# Altium schematic symbol library GN-1866-A-V2 -BOM_Library.SchLib: 79 symbols
Pins are listed as number, name and electrical type; pins without a type are passive.

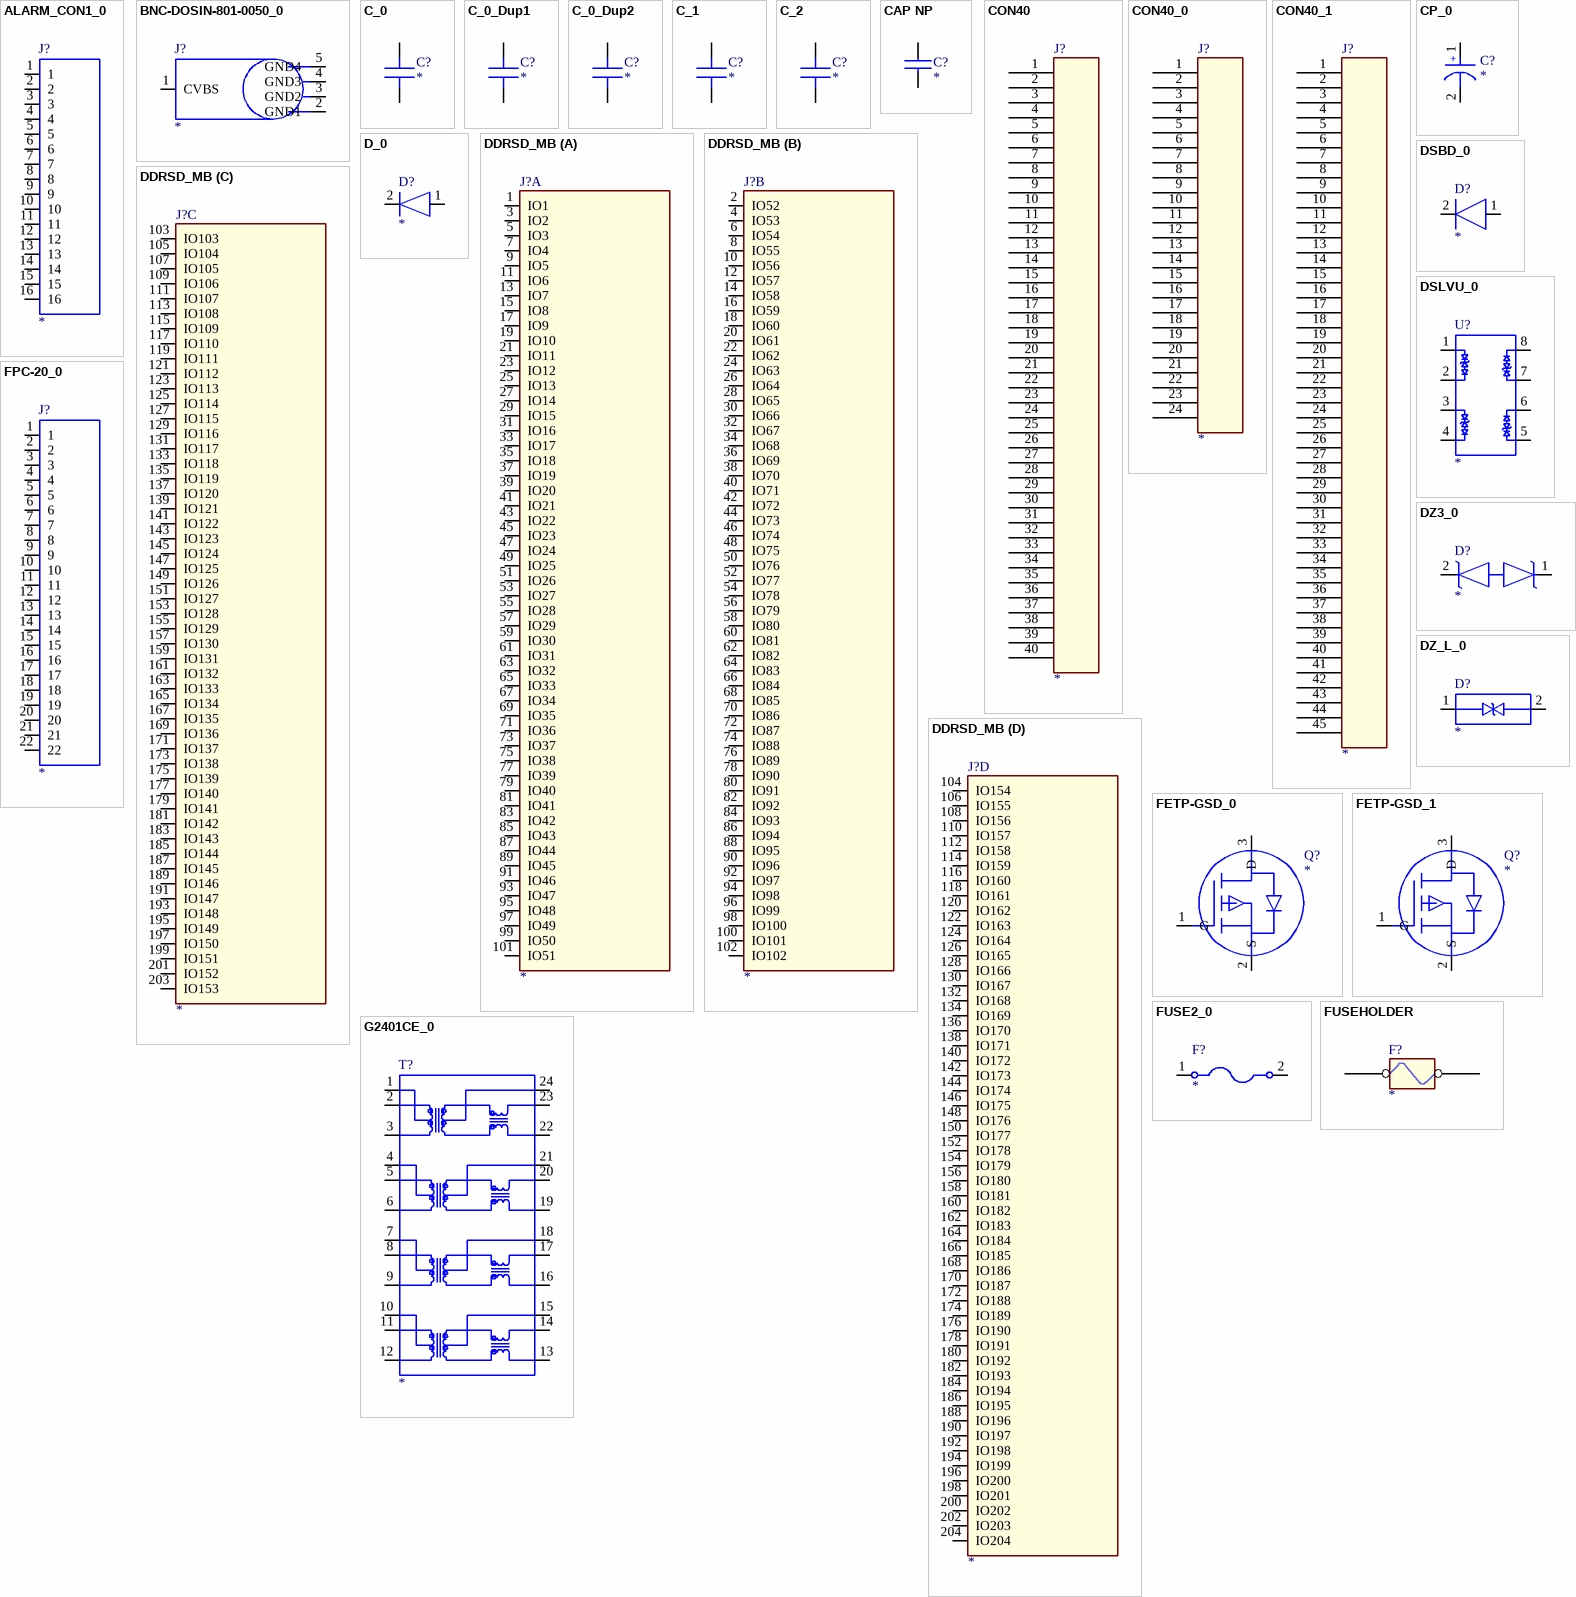
[diagram p0: symbols ALARM_CON1_0 to G2401CE_0]

## ALARM_CON1_0
designator J?
PARTS: 1; PKG_TYPE: HD16-2_54MM-S; DEVICE: CON; LEVEL: STD; OriginalSymbolOrigin: (20,180)
pins: 1, 2, 3, 4, 5, 6, 7, 8, 9, 10, 11, 12, 13, 14, 15, 16

## BNC-DOSIN-801-0050_0
designator J?
PARTS: 1; DEVICE: BNC-DOSIN-801-0050; LEVEL: STD; OriginalSymbolOrigin: (20,60)
pins: 1 CVBS, 2 GND1, 3 GND2, 4 GND3, 5 GND4

## C_0
designator C?
PARTS: 1; PINSWAP: (A,B); LEVEL: STD; PKG_TYPE: CAP2-100-250; DEVICE: CP; OriginalSymbolOrigin: (0,30)
pins: 1 A, 2 B

## C_0_Dup1
designator C?
PARTS: 1; OriginalSymbolOrigin: (0,30); DEVICE: CP; PKG_TYPE: CAP2-100-250; LEVEL: STD; PINSWAP: (A,B)
pins: 1 A, 2 B

## C_0_Dup2
designator C?
PARTS: 1; OriginalSymbolOrigin: (0,30); DEVICE: CP; PKG_TYPE: CAP2-100-250; LEVEL: STD; PINSWAP: (A,B)
pins: 1 A, 2 B

## C_1
designator C?
PARTS: 1; OriginalSymbolOrigin: (0,30); DEVICE: CP; PKG_TYPE: CAP2-100-250; LEVEL: STD; PINSWAP: (A,B)
pins: 1 A, 2 B

## C_2
designator C?
PARTS: 1; PINSWAP: (A,B); LEVEL: STD; PKG_TYPE: CAP2-100-250; DEVICE: CP; OriginalSymbolOrigin: (0,30)
pins: 1 A, 2 B

## CAP NP
designator C?
pins: 1, 2

## CON40
designator J?
pins: 1, 2, 3, 4, 5, 6, 7, 8, 9, 10, 11, 12, 13, 14, 15, 16, 17, 18, 19, 20, 21, 22, 23, 24, 25, 26, 27, 28, 29, 30, 31, 32, 33, 34, 35, 36, 37, 38, 39, 40

## CON40_0
designator J?
pins: 1, 2, 3, 4, 5, 6, 7, 8, 9, 10, 11, 12, 13, 14, 15, 16, 17, 18, 19, 20, 21, 22, 23, 24

## CON40_1
designator J?
pins: 1, 2, 3, 4, 5, 6, 7, 8, 9, 10, 11, 12, 13, 14, 15, 16, 17, 18, 19, 20, 21, 22, 23, 24, 25, 26, 27, 28, 29, 30, 31, 32, 33, 34, 35, 36, 37, 38, 39, 40, 41, 42, 43, 44, 45

## CP_0
designator C?
PARTS: 1; OriginalSymbolOrigin: (0,30); DEVICE: CP; PKG_TYPE: CAP2-100-250; LEVEL: STD
pins: 1, 2
text: +

## D_0
designator D?
PARTS: 1; DEVICE: D; LEVEL: STD; PKG_TYPE: 2; OriginalSymbolOrigin: (30,20)
pins: 1 A, 2 B

## DDRSD_MB
designator J?
SPLIT_INST: TRUE; SWAP_INFO: (S1+S2+S3+S4)
part A pins: 1 IO1, 3 IO2, 5 IO3, 7 IO4, 9 IO5, 11 IO6, 13 IO7, 15 IO8, 17 IO9, 19 IO10, 21 IO11, 23 IO12, 25 IO13, 27 IO14, 29 IO15, 31 IO16, 33 IO17, 35 IO18, 37 IO19, 39 IO20, 41 IO21, 43 IO22, 45 IO23, 47 IO24, 49 IO25, 51 IO26, 53 IO27, 55 IO28, 57 IO29, 59 IO30, 61 IO31, 63 IO32, 65 IO33, 67 IO34, 69 IO35, 71 IO36, 73 IO37, 75 IO38, 77 IO39, 79 IO40, 81 IO41, 83 IO42, 85 IO43, 87 IO44, 89 IO45, 91 IO46, 93 IO47, 95 IO48, 97 IO49, 99 IO50, 101 IO51
part B pins: 2 IO52, 4 IO53, 6 IO54, 8 IO55, 10 IO56, 12 IO57, 14 IO58, 16 IO59, 18 IO60, 20 IO61, 22 IO62, 24 IO63, 26 IO64, 28 IO65, 30 IO66, 32 IO67, 34 IO68, 36 IO69, 38 IO70, 40 IO71, 42 IO72, 44 IO73, 46 IO74, 48 IO75, 50 IO76, 52 IO77, 54 IO78, 56 IO79, 58 IO80, 60 IO81, 62 IO82, 64 IO83, 66 IO84, 68 IO85, 70 IO86, 72 IO87, 74 IO88, 76 IO89, 78 IO90, 80 IO91, 82 IO92, 84 IO93, 86 IO94, 88 IO95, 90 IO96, 92 IO97, 94 IO98, 96 IO99, 98 IO100, 100 IO101, 102 IO102
part C pins: 103 IO103, 105 IO104, 107 IO105, 109 IO106, 111 IO107, 113 IO108, 115 IO109, 117 IO110, 119 IO111, 121 IO112, 123 IO113, 125 IO114, 127 IO115, 129 IO116, 131 IO117, 133 IO118, 135 IO119, 137 IO120, 139 IO121, 141 IO122, 143 IO123, 145 IO124, 147 IO125, 149 IO126, 151 IO127, 153 IO128, 155 IO129, 157 IO130, 159 IO131, 161 IO132, 163 IO133, 165 IO134, 167 IO135, 169 IO136, 171 IO137, 173 IO138, 175 IO139, 177 IO140, 179 IO141, 181 IO142, 183 IO143, 185 IO144, 187 IO145, 189 IO146, 191 IO147, 193 IO148, 195 IO149, 197 IO150, 199 IO151, 201 IO152, 203 IO153
part D pins: 104 IO154, 106 IO155, 108 IO156, 110 IO157, 112 IO158, 114 IO159, 116 IO160, 118 IO161, 120 IO162, 122 IO163, 124 IO164, 126 IO165, 128 IO166, 130 IO167, 132 IO168, 134 IO169, 136 IO170, 138 IO171, 140 IO172, 142 IO173, 144 IO174, 146 IO175, 148 IO176, 150 IO177, 152 IO178, 154 IO179, 156 IO180, 158 IO181, 160 IO182, 162 IO183, 164 IO184, 166 IO185, 168 IO186, 170 IO187, 172 IO188, 174 IO189, 176 IO190, 178 IO191, 180 IO192, 182 IO193, 184 IO194, 186 IO195, 188 IO196, 190 IO197, 192 IO198, 194 IO199, 196 IO200, 198 IO201, 200 IO202, 202 IO203, 204 IO204

## DSBD_0
designator D?
PARTS: 1; DEVICE: DIODE1; LEVEL: STD; PKG_TYPE: DIODE2-600-60; CODE: 15010002; OriginalSymbolOrigin: (20,20)
pins: 1 A, 2 B

## DSLVU_0
designator U?
PARTS: 1; DEVICE: SLVU28_4; LEVEL: STD; PKG_TYPE: SOP8-50-150; CODE: 15040165; OriginalSymbolOrigin: (20,90)
pins: 1 P1, 2 P2, 3 P3, 4 P4, 5 P5, 6 P6, 7 P7, 8 P8

## DZ3_0
designator D?
PARTS: 1; DEVICE: 1N5231BRL; LEVEL: STD; PKG_TYPE: DO-214AA-DI; CODE: 15040194; OriginalSymbolOrigin: (20,20)
pins: 1 A, 2 B

## DZ_L_0
designator D?
PARTS: 1; DEVICE: AKSMT15-076C; LEVEL: STD; OriginalSymbolOrigin: (20,30)
pins: 1, 2

## FETP-GSD_0
designator Q?
PARTS: 1; DEVICE: REF; PKG_TYPE: SOT23; LEVEL: STD; OriginalSymbolOrigin: (10,80)
pins: 1 G, 2 S, 3 D

## FETP-GSD_1
designator Q?
PARTS: 1; DEVICE: REF; PKG_TYPE: SOT23; LEVEL: STD; OriginalSymbolOrigin: (10,80)
pins: 1 G, 2 S, 3 D

## FPC-20_0
designator J?
PARTS: 1; DEVICE: FPC-20; LEVEL: STD; OriginalSymbolOrigin: (20,240)
pins: 1, 2, 3, 4, 5, 6, 7, 8, 9, 10, 11, 12, 13, 14, 15, 16, 17, 18, 19, 20, 21, 22

## FUSE2_0
designator F?
PARTS: 1; OriginalSymbolOrigin: (20,20); LEVEL: STD; DEVICE: FUSE; CODE: ?; PKG_TYPE: ?
pins: 1 P1, 2 P2

## FUSEHOLDER
designator F?
pins: 1, 2

## G2401CE_0
designator T?
FORWARD_PCB: 1; DEVICE: G2401CE; LEVEL: STD; OriginalSymbolOrigin: (20,210); PARTS: 1
pins: 1 P1, 2 P2, 3 P3, 4 P4, 5 P5, 6 P6, 7 P7, 8 P8, 9 P9, 10 P10, 11 P11, 12 P12, 13 P13, 14 P14, 15 P15, 16 P16, 17 P17, 18 P18, 19 P19, 20 P20, 21 P21, 22 P22, 23 P23, 24 P24

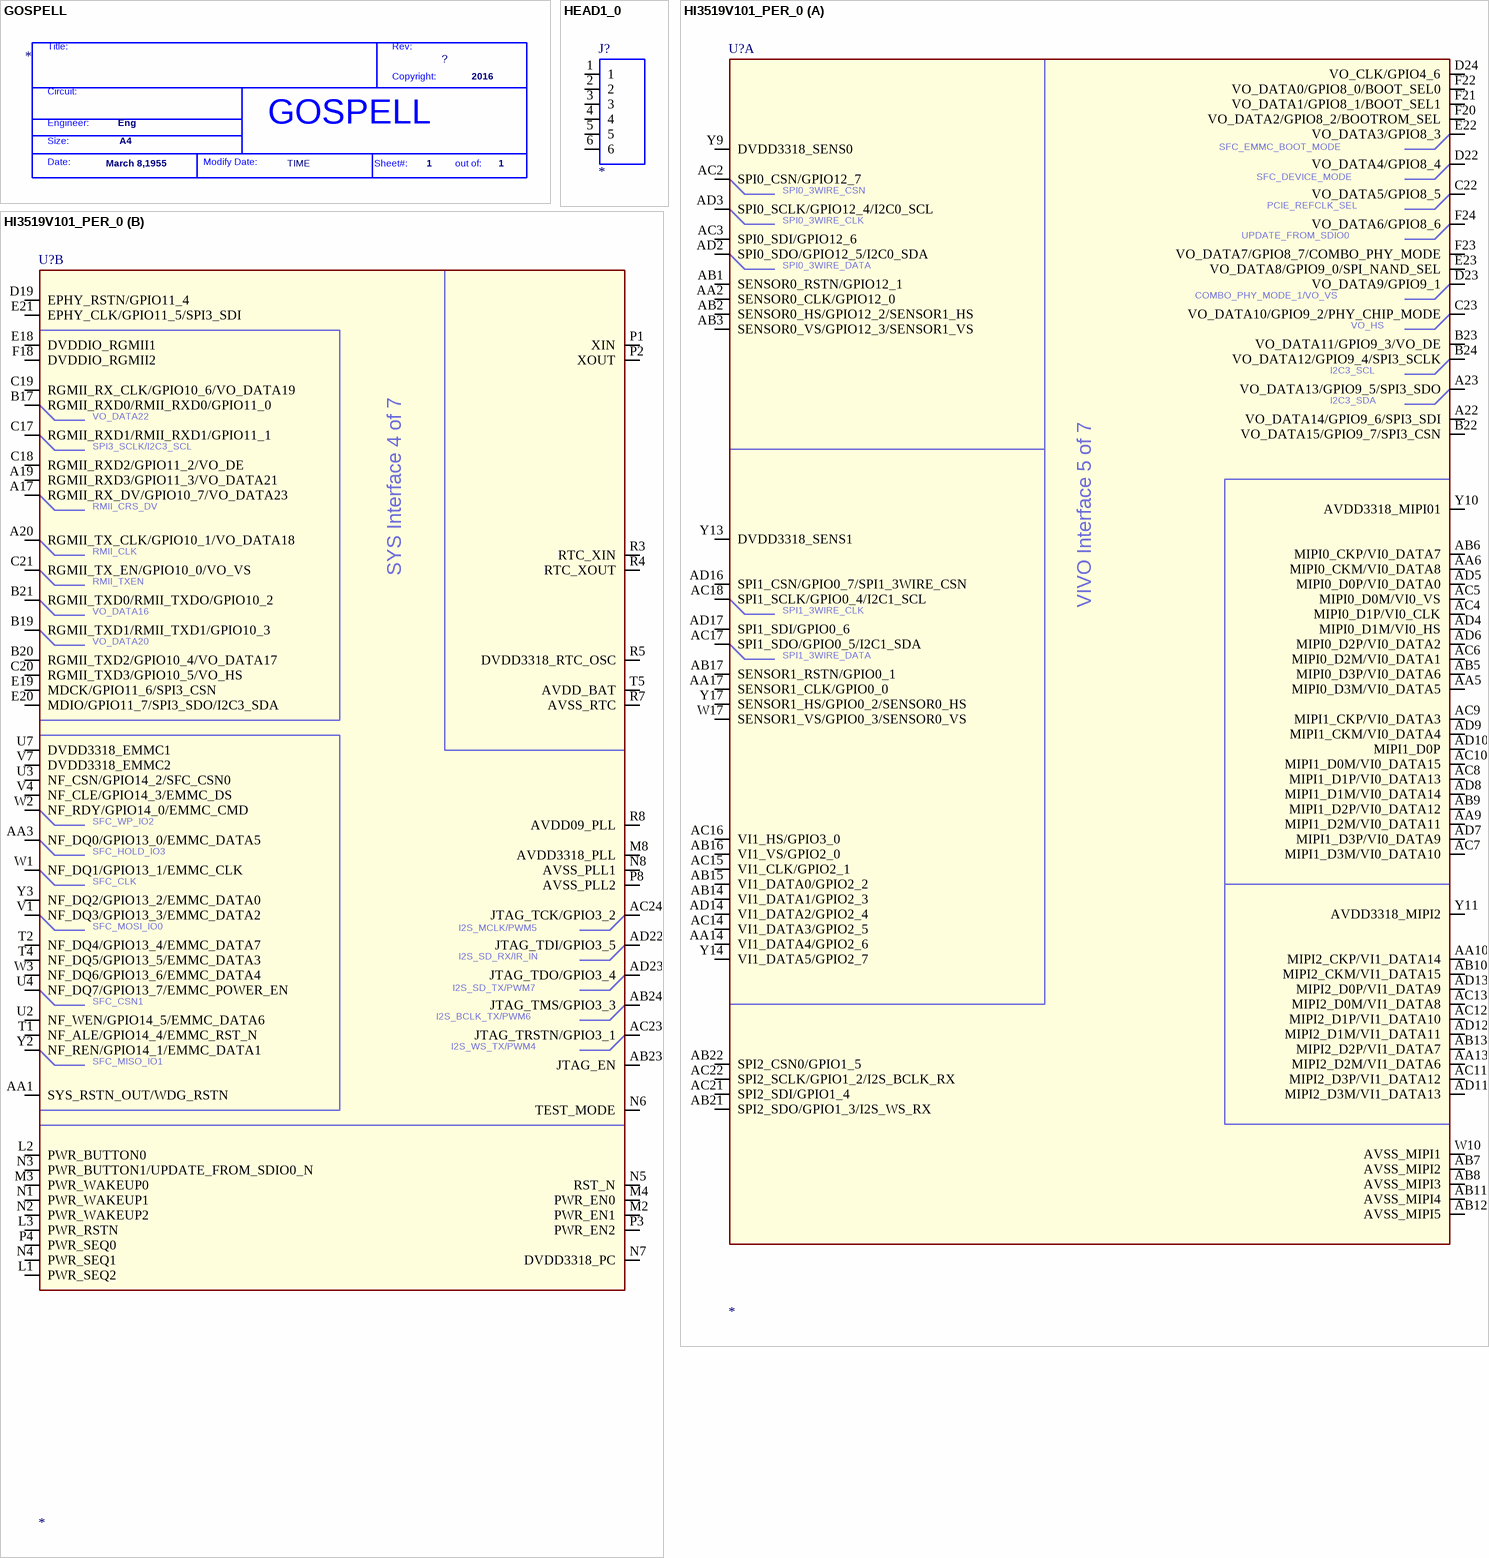
[diagram p1: symbols GOSPELL to HI3519V101_PER_0]

## GOSPELL
designator *  Page Modify Date: TIME  Engineer: Eng  Copyright: 2016  Page Size: A4  Page Create Date: March 8,1955  Page Number: 1  (graphical)
RevCode: ?; Page Count: 1
text: Title:; Rev:; Copyright:; Circuit:; Engineer:; Size:; Date:; Modify Date:; Sheet#:; out of:

## HEAD1_0
designator J?
PARTS: 1; LEVEL: STD; DEVICE: HEAD1_6; OriginalSymbolOrigin: (20,70)
pins: 1, 2, 3, 4, 5, 6

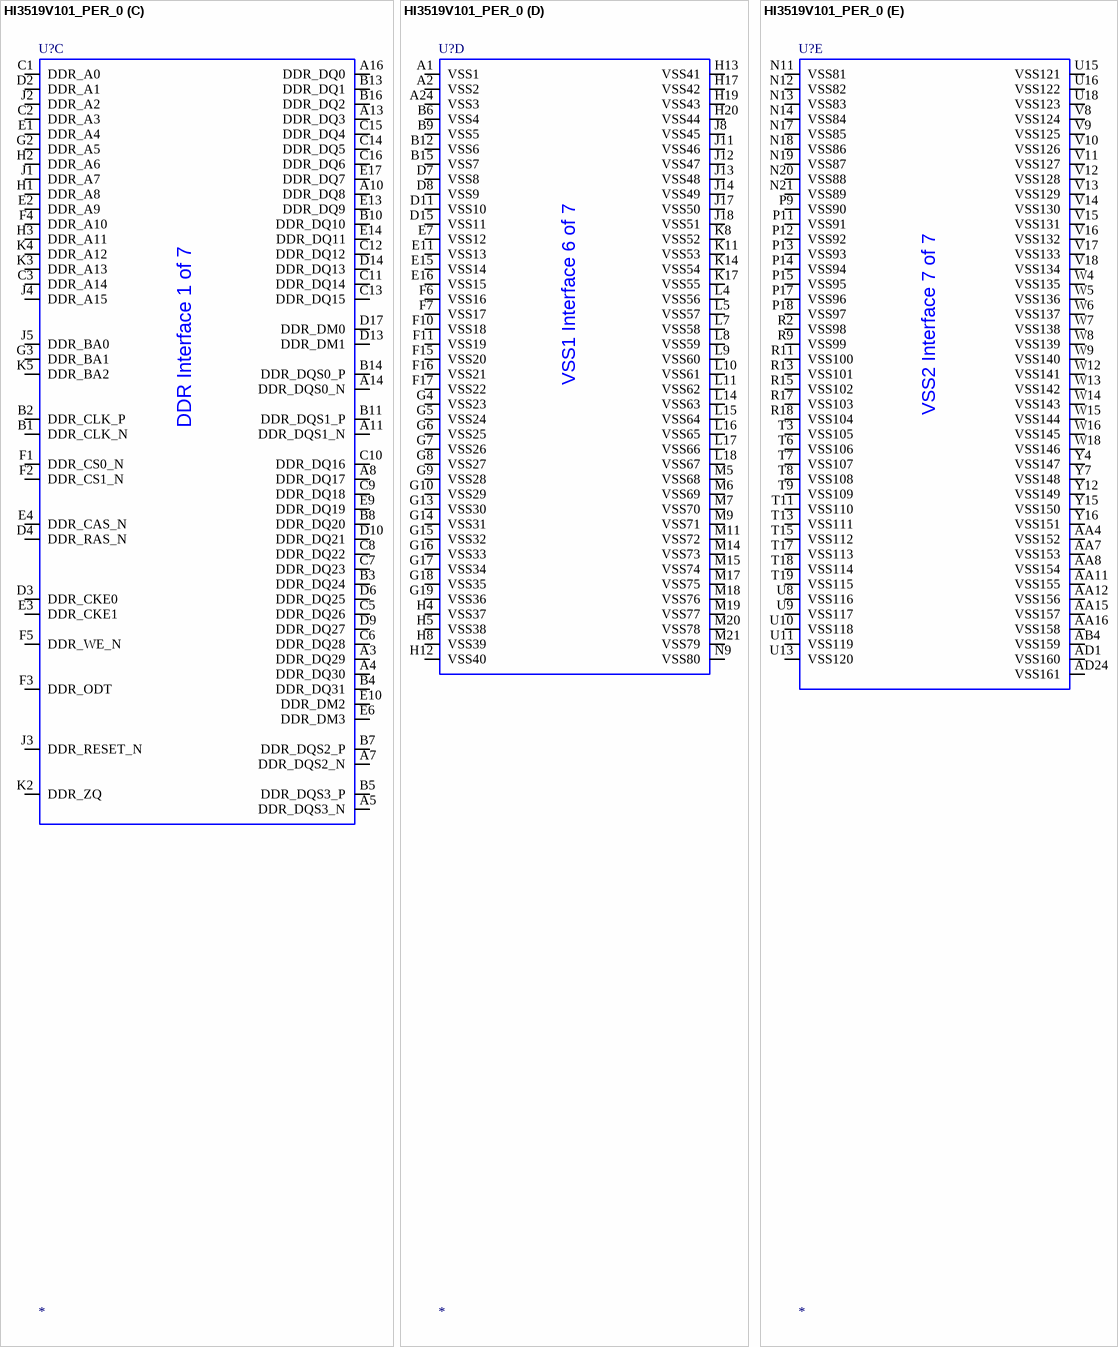
[diagram p2: symbol HI3519V101_PER_0]

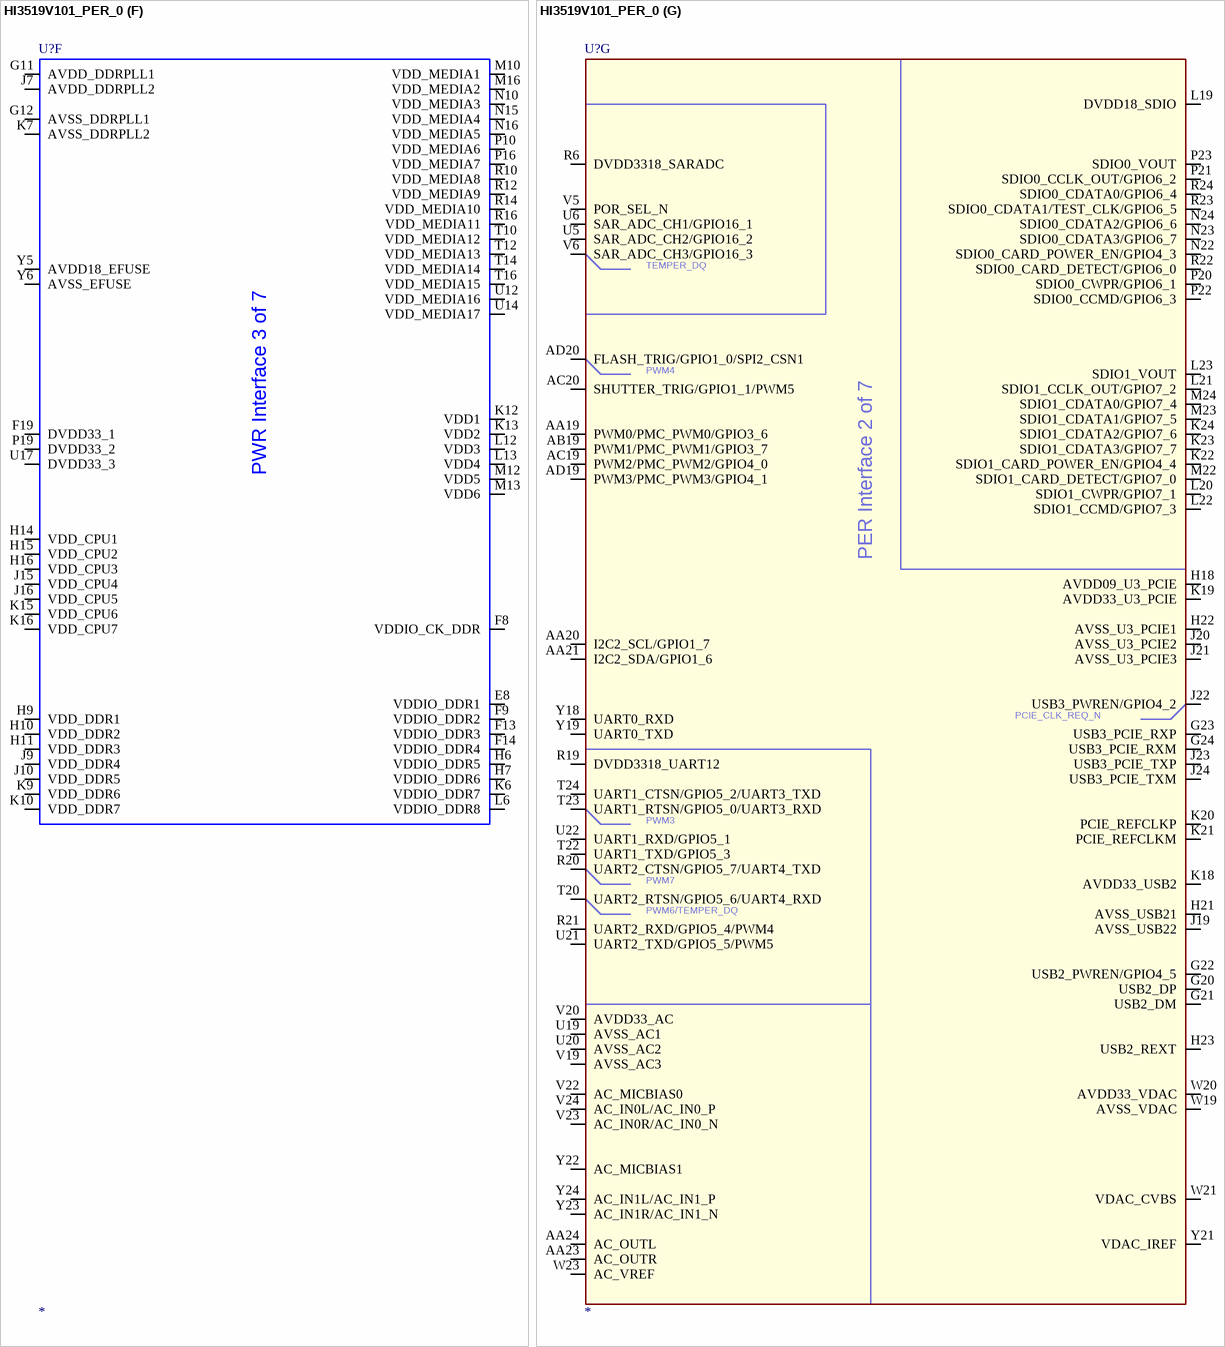
[diagram p3: symbol HI3519V101_PER_0]

## HI3519V101_PER_0
designator U?
FORWARD_PCB: 1; DEVICE: HI3519V101; HETERO: (HI3519V101_PWR),(HI3519V101_DDR),(HI3519V101_SYS),(HI3519V101_VIVO),(HI3519V101_PER),(HI3519V101_VSS1),(HI3519V101_VSS2); LEVEL: STD; OriginalSymbolOrigin: (0,840); PARTS: 1
part A pins: A22 VO_DATA14/GPIO9_6/SPI3_SDI, A23 VO_DATA13/GPIO9_5/SPI3_SDO, AA2 SENSOR0_CLK/GPIO12_0, AA5 MIPI0_D3M/VI0_DATA5, AA6 MIPI0_CKM/VI0_DATA8, AA9 MIPI1_D2M/VI0_DATA11, AA10 MIPI2_CKP/VI1_DATA14, AA13 MIPI2_D2M/VI1_DATA6, AA14 VI1_DATA4/GPIO2_6, AA17 SENSOR1_CLK/GPIO0_0, AB1 SENSOR0_RSTN/GPIO12_1, AB2 SENSOR0_HS/GPIO12_2/SENSOR1_HS, AB3 SENSOR0_VS/GPIO12_3/SENSOR1_VS, AB5 MIPI0_D3P/VI0_DATA6, AB6 MIPI0_CKP/VI0_DATA7, AB7 AVSS_MIPI2, AB8 AVSS_MIPI3, AB9 MIPI1_D2P/VI0_DATA12, AB10 MIPI2_CKM/VI1_DATA15, AB11 AVSS_MIPI4, AB12 AVSS_MIPI5, AB13 MIPI2_D2P/VI1_DATA7, AB14 VI1_DATA1/GPIO2_3, AB15 VI1_DATA0/GPIO2_2, AB16 VI1_VS/GPIO2_0, AB17 SENSOR1_RSTN/GPIO0_1, AB21 SPI2_SDO/GPIO1_3/I2S_WS_RX, AB22 SPI2_CSN0/GPIO1_5, AC2 SPI0_CSN/GPIO12_7, AC3 SPI0_SDI/GPIO12_6, AC4 MIPI0_D1P/VI0_CLK, AC5 MIPI0_D0M/VI0_VS, AC6 MIPI0_D2M/VI0_DATA1, AC7 MIPI1_D3M/VI0_DATA10, AC8 MIPI1_D1P/VI0_DATA13, AC9 MIPI1_CKP/VI0_DATA3, AC10 MIPI1_D0M/VI0_DATA15, AC11 MIPI2_D3P/VI1_DATA12, AC12 MIPI2_D1P/VI1_DATA10, AC13 MIPI2_D0M/VI1_DATA8, AC14 VI1_DATA3/GPIO2_5, AC15 VI1_CLK/GPIO2_1, AC16 VI1_HS/GPIO3_0, AC17 SPI1_SDO/GPIO0_5/I2C1_SDA, AC18 SPI1_SCLK/GPIO0_4/I2C1_SCL, AC21 SPI2_SDI/GPIO1_4, AC22 SPI2_SCLK/GPIO1_2/I2S_BCLK_RX, AD2 SPI0_SDO/GPIO12_5/I2C0_SDA, AD3 SPI0_SCLK/GPIO12_4/I2C0_SCL, AD4 MIPI0_D1M/VI0_HS, AD5 MIPI0_D0P/VI0_DATA0, AD6 MIPI0_D2P/VI0_DATA2, AD7 MIPI1_D3P/VI0_DATA9, AD8 MIPI1_D1M/VI0_DATA14, AD9 MIPI1_CKM/VI0_DATA4, AD10 MIPI1_D0P, AD11 MIPI2_D3M/VI1_DATA13, AD12 MIPI2_D1M/VI1_DATA11, AD13 MIPI2_D0P/VI1_DATA9, AD14 VI1_DATA2/GPIO2_4, AD16 SPI1_CSN/GPIO0_7/SPI1_3WIRE_CSN, AD17 SPI1_SDI/GPIO0_6, B22 VO_DATA15/GPIO9_7/SPI3_CSN, B23 VO_DATA11/GPIO9_3/VO_DE, B24 VO_DATA12/GPIO9_4/SPI3_SCLK, C22 VO_DATA5/GPIO8_5, C23 VO_DATA10/GPIO9_2/PHY_CHIP_MODE, D22 VO_DATA4/GPIO8_4, D23 VO_DATA9/GPIO9_1, D24 VO_CLK/GPIO4_6, E22 VO_DATA3/GPIO8_3, E23 VO_DATA8/GPIO9_0/SPI_NAND_SEL, F20 VO_DATA2/GPIO8_2/BOOTROM_SEL, F21 VO_DATA1/GPIO8_1/BOOT_SEL1, F22 VO_DATA0/GPIO8_0/BOOT_SEL0, F23 VO_DATA7/GPIO8_7/COMBO_PHY_MODE, F24 VO_DATA6/GPIO8_6, W10 AVSS_MIPI1, W17 SENSOR1_VS/GPIO0_3/SENSOR0_VS, Y9 DVDD3318_SENS0, Y10 AVDD3318_MIPI01, Y11 AVDD3318_MIPI2, Y13 DVDD3318_SENS1, Y14 VI1_DATA5/GPIO2_7, Y17 SENSOR1_HS/GPIO0_2/SENSOR0_HS
part B pins: A17 RGMII_RX_DV/GPIO10_7/VO_DATA23, A19 RGMII_RXD3/GPIO11_3/VO_DATA21, A20 RGMII_TX_CLK/GPIO10_1/VO_DATA18, AA1 SYS_RSTN_OUT/WDG_RSTN, AA3 NF_DQ0/GPIO13_0/EMMC_DATA5, AB23 JTAG_EN, AB24 JTAG_TMS/GPIO3_3, AC23 JTAG_TRSTN/GPIO3_1, AC24 JTAG_TCK/GPIO3_2, AD22 JTAG_TDI/GPIO3_5, AD23 JTAG_TDO/GPIO3_4, B17 RGMII_RXD0/RMII_RXD0/GPIO11_0, B19 RGMII_TXD1/RMII_TXD1/GPIO10_3, B20 RGMII_TXD2/GPIO10_4/VO_DATA17, B21 RGMII_TXD0/RMII_TXDO/GPIO10_2, C17 RGMII_RXD1/RMII_RXD1/GPIO11_1, C18 RGMII_RXD2/GPIO11_2/VO_DE, C19 RGMII_RX_CLK/GPIO10_6/VO_DATA19, C20 RGMII_TXD3/GPIO10_5/VO_HS, C21 RGMII_TX_EN/GPIO10_0/VO_VS, D19 EPHY_RSTN/GPIO11_4, E18 DVDDIO_RGMII1, E19 MDCK/GPIO11_6/SPI3_CSN, E20 MDIO/GPIO11_7/SPI3_SDO/I2C3_SDA, E21 EPHY_CLK/GPIO11_5/SPI3_SDI, F18 DVDDIO_RGMII2, L1 PWR_SEQ2, L2 PWR_BUTTON0, L3 PWR_RSTN, M2 PWR_EN1, M3 PWR_WAKEUP0, M4 PWR_EN0, M8 AVDD3318_PLL, N1 PWR_WAKEUP1, N2 PWR_WAKEUP2, N3 PWR_BUTTON1/UPDATE_FROM_SDIO0_N, N4 PWR_SEQ1, N5 RST_N, N6 TEST_MODE, N7 DVDD3318_PC, N8 AVSS_PLL1, P1 XIN, P2 XOUT, P3 PWR_EN2, P4 PWR_SEQ0, P8 AVSS_PLL2, R3 RTC_XIN, R4 RTC_XOUT, R5 DVDD3318_RTC_OSC, R7 AVSS_RTC, R8 AVDD09_PLL, T1 NF_ALE/GPIO14_4/EMMC_RST_N, T2 NF_DQ4/GPIO13_4/EMMC_DATA7, T4 NF_DQ5/GPIO13_5/EMMC_DATA3, T5 AVDD_BAT, U2 NF_WEN/GPIO14_5/EMMC_DATA6, U3 NF_CSN/GPIO14_2/SFC_CSN0, U4 NF_DQ7/GPIO13_7/EMMC_POWER_EN, U7 DVDD3318_EMMC1, V1 NF_DQ3/GPIO13_3/EMMC_DATA2, V4 NF_CLE/GPIO14_3/EMMC_DS, V7 DVDD3318_EMMC2, W1 NF_DQ1/GPIO13_1/EMMC_CLK, W2 NF_RDY/GPIO14_0/EMMC_CMD, W3 NF_DQ6/GPIO13_6/EMMC_DATA4, Y2 NF_REN/GPIO14_1/EMMC_DATA1, Y3 NF_DQ2/GPIO13_2/EMMC_DATA0
part C pins: A3 DDR_DQ29, A4 DDR_DQ30, A5 DDR_DQS3_N, A7 DDR_DQS2_N, A8 DDR_DQ17, A10 DDR_DQ8, A11 DDR_DQS1_N, A13 DDR_DQ3, A14 DDR_DQS0_N, A16 DDR_DQ0, B1 DDR_CLK_N, B2 DDR_CLK_P, B3 DDR_DQ24, B4 DDR_DQ31, B5 DDR_DQS3_P, B7 DDR_DQS2_P, B8 DDR_DQ20, B10 DDR_DQ10, B11 DDR_DQS1_P, B13 DDR_DQ1, B14 DDR_DQS0_P, B16 DDR_DQ2, C1 DDR_A0, C2 DDR_A3, C3 DDR_A14, C5 DDR_DQ26, C6 DDR_DQ28, C7 DDR_DQ23, C8 DDR_DQ22, C9 DDR_DQ18, C10 DDR_DQ16, C11 DDR_DQ14, C12 DDR_DQ12, C13 DDR_DQ15, C14 DDR_DQ5, C15 DDR_DQ4, C16 DDR_DQ6, D2 DDR_A1, D3 DDR_CKE0, D4 DDR_RAS_N, D6 DDR_DQ25, D9 DDR_DQ27, D10 DDR_DQ21, D13 DDR_DM1, D14 DDR_DQ13, D17 DDR_DM0, E1 DDR_A4, E2 DDR_A9, E3 DDR_CKE1, E4 DDR_CAS_N, E6 DDR_DM3, E9 DDR_DQ19, E10 DDR_DM2, E13 DDR_DQ9, E14 DDR_DQ11, E17 DDR_DQ7, F1 DDR_CS0_N, F2 DDR_CS1_N, F3 DDR_ODT, F4 DDR_A10, F5 DDR_WE_N, G2 DDR_A5, G3 DDR_BA1, H1 DDR_A8, H2 DDR_A6, H3 DDR_A11, J1 DDR_A7, J2 DDR_A2, J3 DDR_RESET_N, J4 DDR_A15, J5 DDR_BA0, K2 DDR_ZQ, K3 DDR_A13, K4 DDR_A12, K5 DDR_BA2
part D pins: A1 VSS1, A2 VSS2, A24 VSS3, B6 VSS4, B9 VSS5, B12 VSS6, B15 VSS7, D7 VSS8, D8 VSS9, D11 VSS10, D15 VSS11, E7 VSS12, E11 VSS13, E15 VSS14, E16 VSS15, F6 VSS16, F7 VSS17, F10 VSS18, F11 VSS19, F15 VSS20, F16 VSS21, F17 VSS22, G4 VSS23, G5 VSS24, G6 VSS25, G7 VSS26, G8 VSS27, G9 VSS28, G10 VSS29, G13 VSS30, G14 VSS31, G15 VSS32, G16 VSS33, G17 VSS34, G18 VSS35, G19 VSS36, H4 VSS37, H5 VSS38, H8 VSS39, H12 VSS40, H13 VSS41, H17 VSS42, H19 VSS43, H20 VSS44, J8 VSS45, J11 VSS46, J12 VSS47, J13 VSS48, J14 VSS49, J17 VSS50, J18 VSS51, K8 VSS52, K11 VSS53, K14 VSS54, K17 VSS55, L4 VSS56, L5 VSS57, L7 VSS58, L8 VSS59, L9 VSS60, L10 VSS61, L11 VSS62, L14 VSS63, L15 VSS64, L16 VSS65, L17 VSS66, L18 VSS67, M5 VSS68, M6 VSS69, M7 VSS70, M9 VSS71, M11 VSS72, M14 VSS73, M15 VSS74, M17 VSS75, M18 VSS76, M19 VSS77, M20 VSS78, M21 VSS79, N9 VSS80
part E pins: AA4 VSS152, AA7 VSS153, AA8 VSS154, AA11 VSS155, AA12 VSS156, AA15 VSS157, AA16 VSS158, AB4 VSS159, AD1 VSS160, AD24 VSS161, N11 VSS81, N12 VSS82, N13 VSS83, N14 VSS84, N17 VSS85, N18 VSS86, N19 VSS87, N20 VSS88, N21 VSS89, P9 VSS90, P11 VSS91, P12 VSS92, P13 VSS93, P14 VSS94, P15 VSS95, P17 VSS96, P18 VSS97, R2 VSS98, R9 VSS99, R11 VSS100, R13 VSS101, R15 VSS102, R17 VSS103, R18 VSS104, T3 VSS105, T6 VSS106, T7 VSS107, T8 VSS108, T9 VSS109, T11 VSS110, T13 VSS111, T15 VSS112, T17 VSS113, T18 VSS114, T19 VSS115, U8 VSS116, U9 VSS117, U10 VSS118, U11 VSS119, U13 VSS120, U15 VSS121, U16 VSS122, U18 VSS123, V8 VSS124, V9 VSS125, V10 VSS126, V11 VSS127, V12 VSS128, V13 VSS129, V14 VSS130, V15 VSS131, V16 VSS132, V17 VSS133, V18 VSS134, W4 VSS135, W5 VSS136, W6 VSS137, W7 VSS138, W8 VSS139, W9 VSS140, W12 VSS141, W13 VSS142, W14 VSS143, W15 VSS144, W16 VSS145, W18 VSS146, Y4 VSS147, Y7 VSS148, Y12 VSS149, Y15 VSS150, Y16 VSS151
part F pins: E8 VDDIO_DDR1, F8 VDDIO_CK_DDR, F9 VDDIO_DDR2, F13 VDDIO_DDR3, F14 VDDIO_DDR4, F19 DVDD33_1, G11 AVDD_DDRPLL1, G12 AVSS_DDRPLL1, H6 VDDIO_DDR5, H7 VDDIO_DDR6, H9 VDD_DDR1, H10 VDD_DDR2, H11 VDD_DDR3, H14 VDD_CPU1, H15 VDD_CPU2, H16 VDD_CPU3, J7 AVDD_DDRPLL2, J9 VDD_DDR4, J10 VDD_DDR5, J15 VDD_CPU4, J16 VDD_CPU5, K6 VDDIO_DDR7, K7 AVSS_DDRPLL2, K9 VDD_DDR6, K10 VDD_DDR7, K12 VDD1, K13 VDD2, K15 VDD_CPU6, K16 VDD_CPU7, L6 VDDIO_DDR8, L12 VDD3, L13 VDD4, M10 VDD_MEDIA1, M12 VDD5, M13 VDD6, M16 VDD_MEDIA2, N10 VDD_MEDIA3, N15 VDD_MEDIA4, N16 VDD_MEDIA5, P10 VDD_MEDIA6, P16 VDD_MEDIA7, P19 DVDD33_2, R10 VDD_MEDIA8, R12 VDD_MEDIA9, R14 VDD_MEDIA10, R16 VDD_MEDIA11, T10 VDD_MEDIA12, T12 VDD_MEDIA13, T14 VDD_MEDIA14, T16 VDD_MEDIA15, U12 VDD_MEDIA16, U14 VDD_MEDIA17, U17 DVDD33_3, Y5 AVDD18_EFUSE, Y6 AVSS_EFUSE
part G pins: AA19 PWM0/PMC_PWM0/GPIO3_6, AA20 I2C2_SCL/GPIO1_7, AA21 I2C2_SDA/GPIO1_6, AA23 AC_OUTR, AA24 AC_OUTL, AB19 PWM1/PMC_PWM1/GPIO3_7, AC19 PWM2/PMC_PWM2/GPIO4_0, AC20 SHUTTER_TRIG/GPIO1_1/PWM5, AD19 PWM3/PMC_PWM3/GPIO4_1, AD20 FLASH_TRIG/GPIO1_0/SPI2_CSN1, G20 USB2_DP, G21 USB2_DM, G22 USB2_PWREN/GPIO4_5, G23 USB3_PCIE_RXP, G24 USB3_PCIE_RXM, H18 AVDD09_U3_PCIE, H21 AVSS_USB21, H22 AVSS_U3_PCIE1, H23 USB2_REXT, J19 AVSS_USB22, J20 AVSS_U3_PCIE2, J21 AVSS_U3_PCIE3, J22 USB3_PWREN/GPIO4_2, J23 USB3_PCIE_TXP, J24 USB3_PCIE_TXM, K18 AVDD33_USB2, K19 AVDD33_U3_PCIE, K20 PCIE_REFCLKP, K21 PCIE_REFCLKM, K22 SDIO1_CARD_POWER_EN/GPIO4_4, K23 SDIO1_CDATA3/GPIO7_7, K24 SDIO1_CDATA2/GPIO7_6, L19 DVDD18_SDIO, L20 SDIO1_CWPR/GPIO7_1, L21 SDIO1_CCLK_OUT/GPIO7_2, L22 SDIO1_CCMD/GPIO7_3, L23 SDIO1_VOUT, M22 SDIO1_CARD_DETECT/GPIO7_0, M23 SDIO1_CDATA1/GPIO7_5, M24 SDIO1_CDATA0/GPIO7_4, N22 SDIO0_CARD_POWER_EN/GPIO4_3, N23 SDIO0_CDATA3/GPIO6_7, N24 SDIO0_CDATA2/GPIO6_6, P20 SDIO0_CWPR/GPIO6_1, P21 SDIO0_CCLK_OUT/GPIO6_2, P22 SDIO0_CCMD/GPIO6_3, P23 SDIO0_VOUT, R6 DVDD3318_SARADC, R19 DVDD3318_UART12, R20 UART2_CTSN/GPIO5_7/UART4_TXD, R21 UART2_RXD/GPIO5_4/PWM4, R22 SDIO0_CARD_DETECT/GPIO6_0, R23 SDIO0_CDATA1/TEST_CLK/GPIO6_5, R24 SDIO0_CDATA0/GPIO6_4, T20 UART2_RTSN/GPIO5_6/UART4_RXD, T22 UART1_TXD/GPIO5_3, T23 UART1_RTSN/GPIO5_0/UART3_RXD, T24 UART1_CTSN/GPIO5_2/UART3_TXD, U5 SAR_ADC_CH2/GPIO16_2, U6 SAR_ADC_CH1/GPIO16_1, U19 AVSS_AC1, U20 AVSS_AC2, U21 UART2_TXD/GPIO5_5/PWM5, U22 UART1_RXD/GPIO5_1, V5 POR_SEL_N, V6 SAR_ADC_CH3/GPIO16_3, V19 AVSS_AC3, V20 AVDD33_AC, V22 AC_MICBIAS0, V23 AC_IN0R/AC_IN0_N, V24 AC_IN0L/AC_IN0_P, W19 AVSS_VDAC, W20 AVDD33_VDAC, W21 VDAC_CVBS, W23 AC_VREF, Y18 UART0_RXD, Y19 UART0_TXD, Y21 VDAC_IREF, Y22 AC_MICBIAS1, Y23 AC_IN1R/AC_IN1_N, Y24 AC_IN1L/AC_IN1_P
part A text: SFC_EMMC_BOOT_MODE; SFC_DEVICE_MODE; SPI0_3WIRE_CSN; PCIE_REFCLK_SEL; SPI0_3WIRE_CLK; UPDATE_FROM_SDIO0; SPI0_3WIRE_DATA; COMBO_PHY_MODE_1/VO_VS; VO_HS; I2C3_SCL; I2C3_SDA; VIVO Interface 5 of 7; SPI1_3WIRE_CLK; SPI1_3WIRE_DATA
part B text: VO_DATA22; SPI3_SCLK/I2C3_SCL; RMII_CRS_DV; RMII_CLK; SYS Interface 4 of 7; RMII_TXEN; VO_DATA16; VO_DATA20; SFC_WP_IO2; SFC_HOLD_IO3; SFC_CLK; SFC_MOSI_IO0; I2S_MCLK/PWM5; I2S_SD_RX/IR_IN; I2S_SD_TX/PWM7; SFC_CSN1; I2S_BCLK_TX/PWM6; I2S_WS_TX/PWM4; SFC_MISO_IO1
part C text: DDR Interface 1 of 7
part D text: VSS1 Interface 6 of 7
part E text: VSS2 Interface 7 of 7
part F text: PWR Interface 3 of 7
part G text: TEMPER_DQ; PWM4; PER Interface 2 of 7; PCIE_CLK_REQ_N; PWM3; PWM7; PWM6/TEMPER_DQ

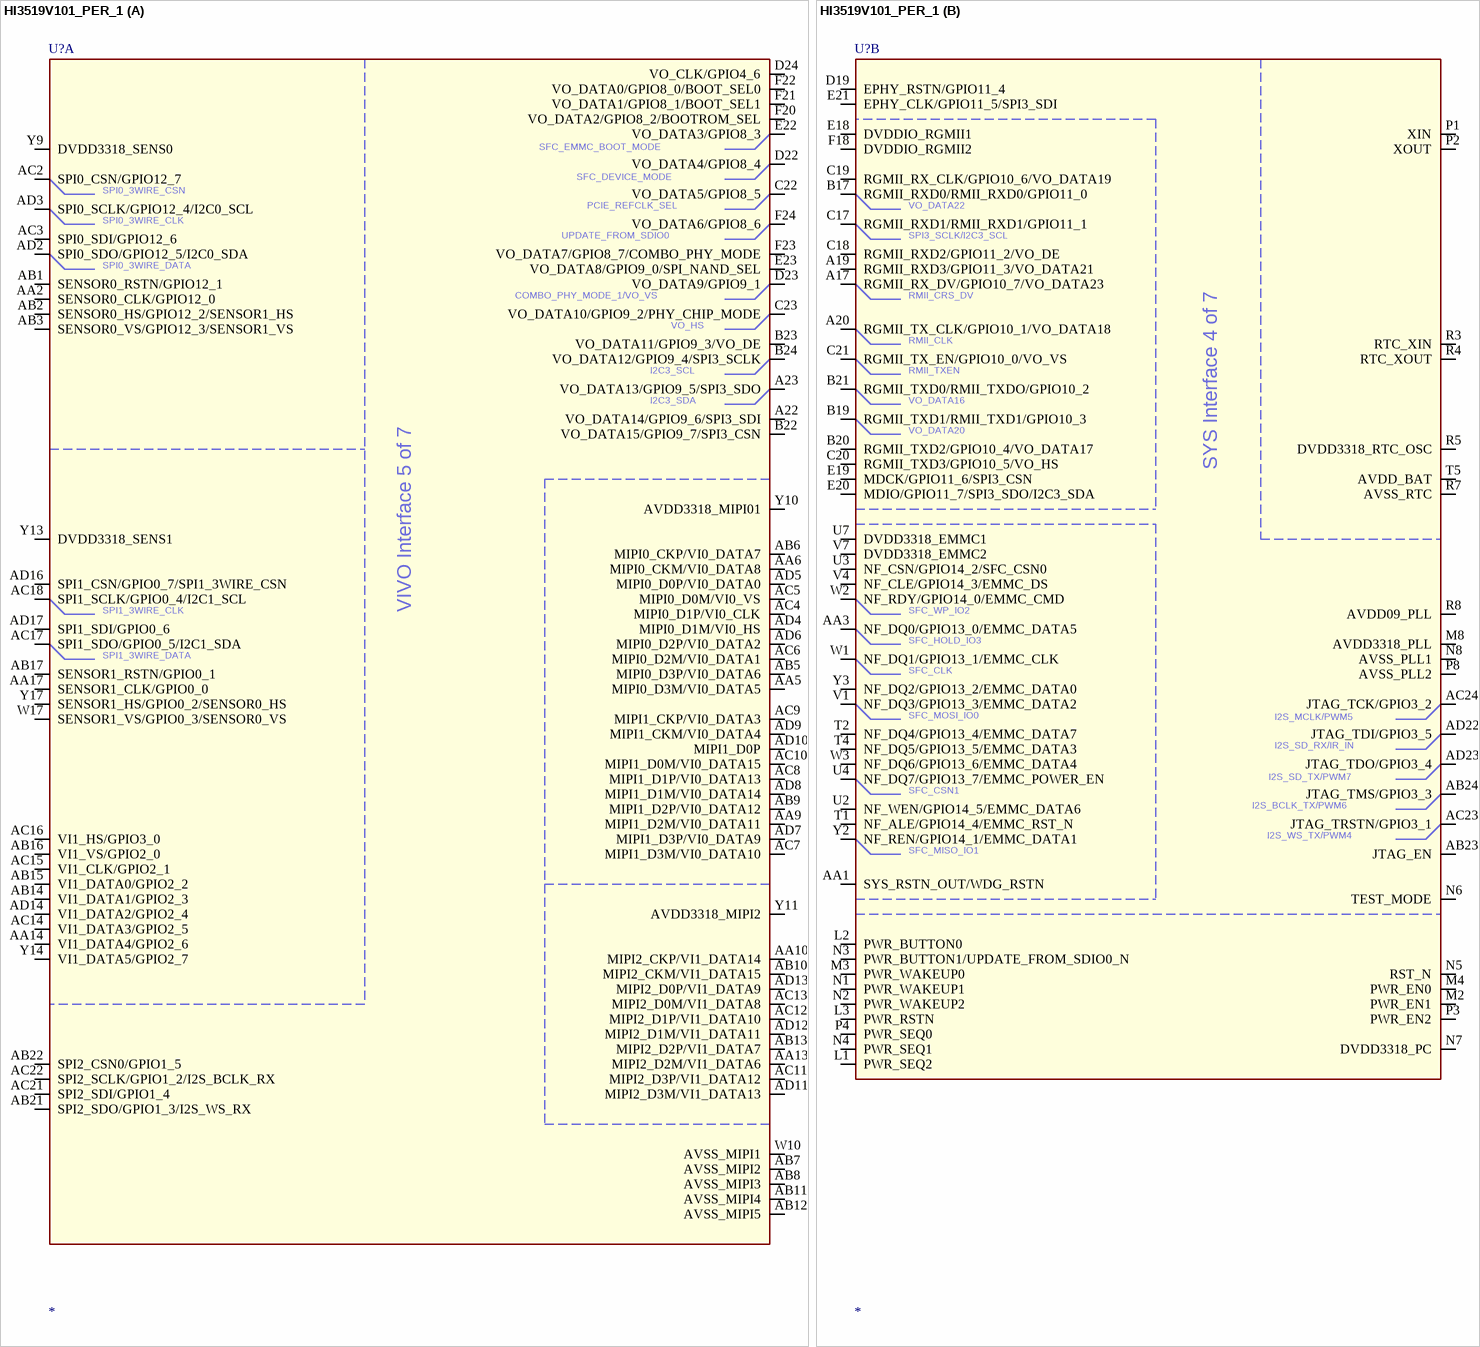
[diagram p4: symbol HI3519V101_PER_1]

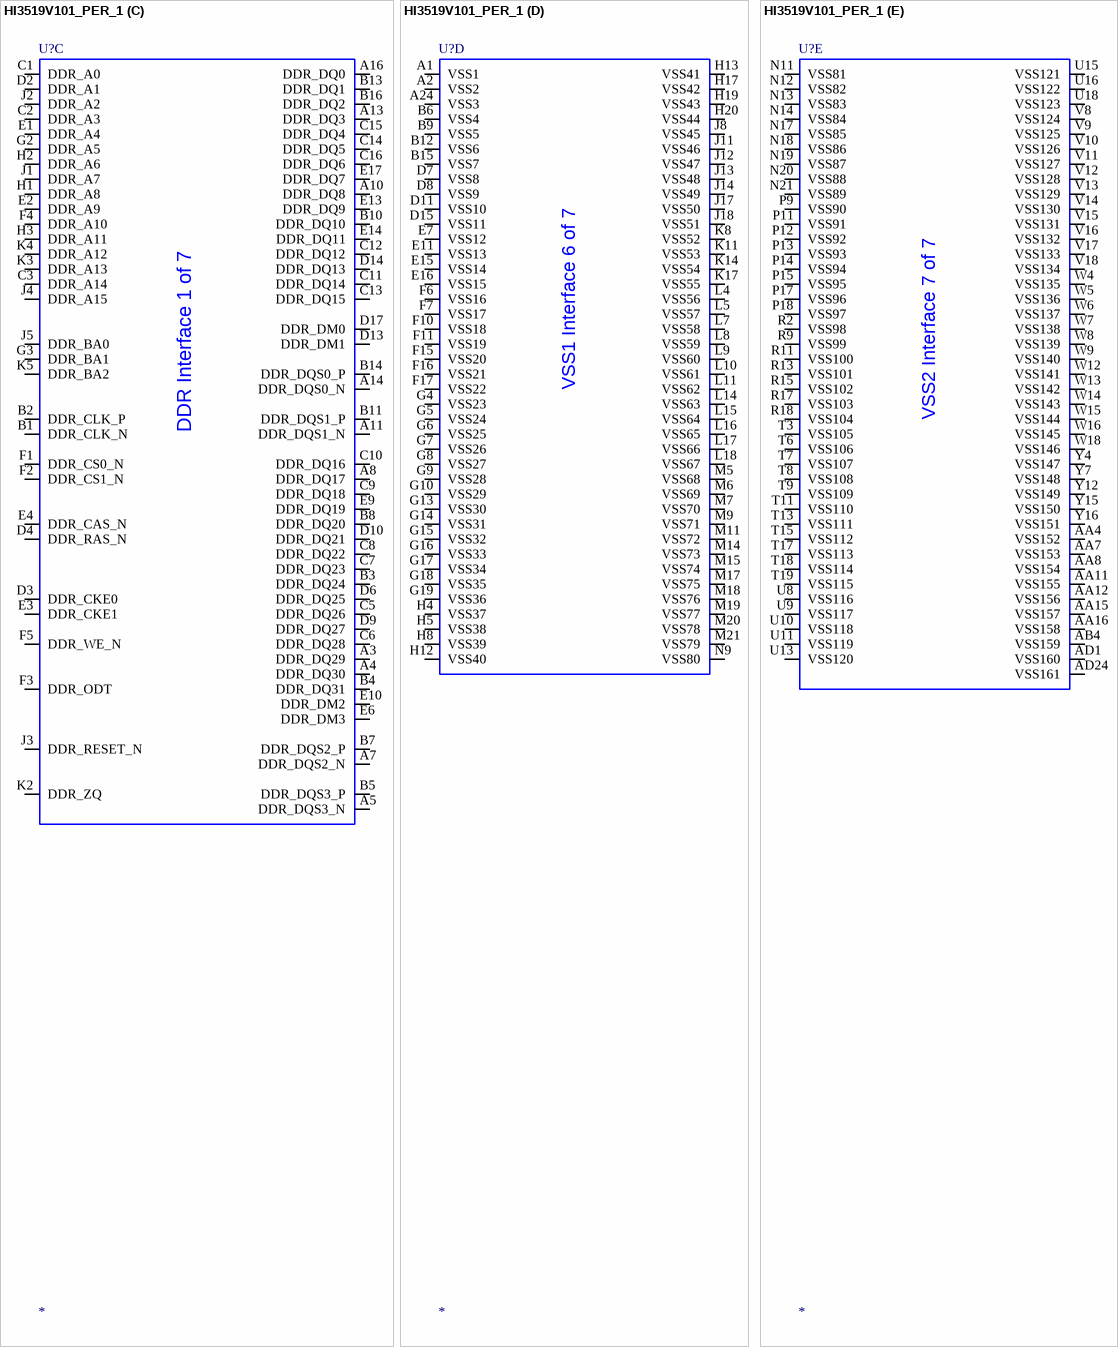
[diagram p5: symbol HI3519V101_PER_1]

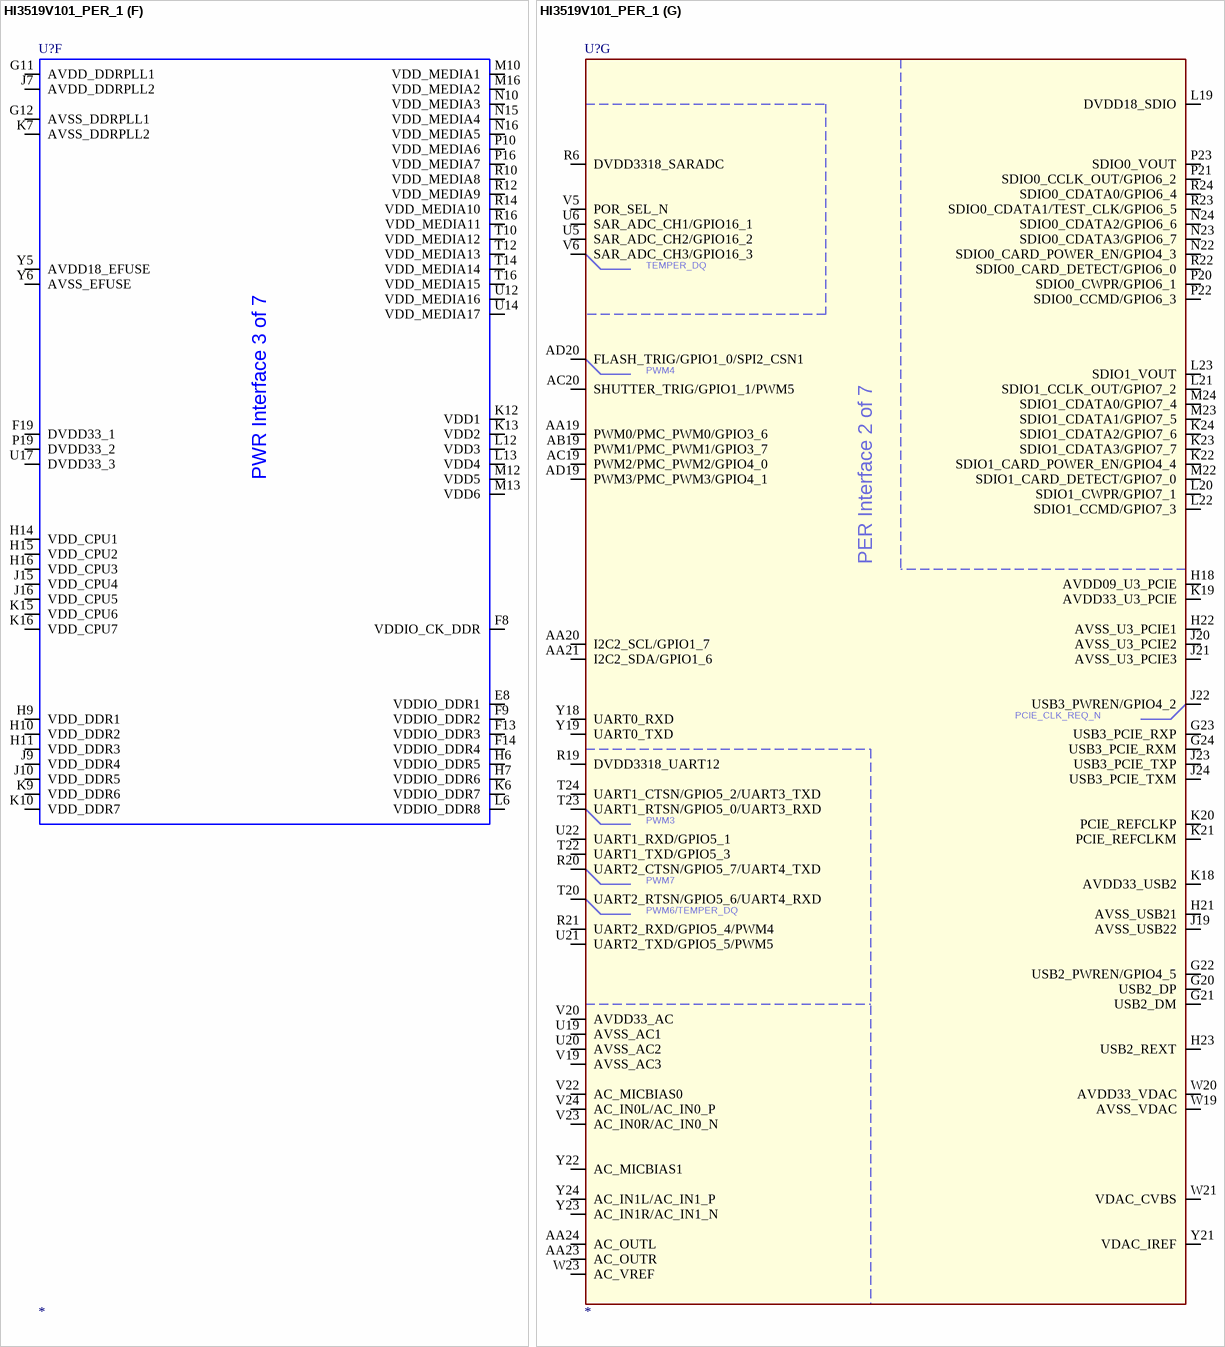
[diagram p6: symbol HI3519V101_PER_1]

## HI3519V101_PER_1
designator U?
FORWARD_PCB: 1; DEVICE: HI3519V101; HETERO: (HI3519V101_PWR),(HI3519V101_DDR),(HI3519V101_SYS),(HI3519V101_VIVO),(HI3519V101_PER),(HI3519V101_VSS1),(HI3519V101_VSS2); LEVEL: STD; OriginalSymbolOrigin: (0,840); PARTS: 1
part A pins: A22 VO_DATA14/GPIO9_6/SPI3_SDI, A23 VO_DATA13/GPIO9_5/SPI3_SDO, AA2 SENSOR0_CLK/GPIO12_0, AA5 MIPI0_D3M/VI0_DATA5, AA6 MIPI0_CKM/VI0_DATA8, AA9 MIPI1_D2M/VI0_DATA11, AA10 MIPI2_CKP/VI1_DATA14, AA13 MIPI2_D2M/VI1_DATA6, AA14 VI1_DATA4/GPIO2_6, AA17 SENSOR1_CLK/GPIO0_0, AB1 SENSOR0_RSTN/GPIO12_1, AB2 SENSOR0_HS/GPIO12_2/SENSOR1_HS, AB3 SENSOR0_VS/GPIO12_3/SENSOR1_VS, AB5 MIPI0_D3P/VI0_DATA6, AB6 MIPI0_CKP/VI0_DATA7, AB7 AVSS_MIPI2, AB8 AVSS_MIPI3, AB9 MIPI1_D2P/VI0_DATA12, AB10 MIPI2_CKM/VI1_DATA15, AB11 AVSS_MIPI4, AB12 AVSS_MIPI5, AB13 MIPI2_D2P/VI1_DATA7, AB14 VI1_DATA1/GPIO2_3, AB15 VI1_DATA0/GPIO2_2, AB16 VI1_VS/GPIO2_0, AB17 SENSOR1_RSTN/GPIO0_1, AB21 SPI2_SDO/GPIO1_3/I2S_WS_RX, AB22 SPI2_CSN0/GPIO1_5, AC2 SPI0_CSN/GPIO12_7, AC3 SPI0_SDI/GPIO12_6, AC4 MIPI0_D1P/VI0_CLK, AC5 MIPI0_D0M/VI0_VS, AC6 MIPI0_D2M/VI0_DATA1, AC7 MIPI1_D3M/VI0_DATA10, AC8 MIPI1_D1P/VI0_DATA13, AC9 MIPI1_CKP/VI0_DATA3, AC10 MIPI1_D0M/VI0_DATA15, AC11 MIPI2_D3P/VI1_DATA12, AC12 MIPI2_D1P/VI1_DATA10, AC13 MIPI2_D0M/VI1_DATA8, AC14 VI1_DATA3/GPIO2_5, AC15 VI1_CLK/GPIO2_1, AC16 VI1_HS/GPIO3_0, AC17 SPI1_SDO/GPIO0_5/I2C1_SDA, AC18 SPI1_SCLK/GPIO0_4/I2C1_SCL, AC21 SPI2_SDI/GPIO1_4, AC22 SPI2_SCLK/GPIO1_2/I2S_BCLK_RX, AD2 SPI0_SDO/GPIO12_5/I2C0_SDA, AD3 SPI0_SCLK/GPIO12_4/I2C0_SCL, AD4 MIPI0_D1M/VI0_HS, AD5 MIPI0_D0P/VI0_DATA0, AD6 MIPI0_D2P/VI0_DATA2, AD7 MIPI1_D3P/VI0_DATA9, AD8 MIPI1_D1M/VI0_DATA14, AD9 MIPI1_CKM/VI0_DATA4, AD10 MIPI1_D0P, AD11 MIPI2_D3M/VI1_DATA13, AD12 MIPI2_D1M/VI1_DATA11, AD13 MIPI2_D0P/VI1_DATA9, AD14 VI1_DATA2/GPIO2_4, AD16 SPI1_CSN/GPIO0_7/SPI1_3WIRE_CSN, AD17 SPI1_SDI/GPIO0_6, B22 VO_DATA15/GPIO9_7/SPI3_CSN, B23 VO_DATA11/GPIO9_3/VO_DE, B24 VO_DATA12/GPIO9_4/SPI3_SCLK, C22 VO_DATA5/GPIO8_5, C23 VO_DATA10/GPIO9_2/PHY_CHIP_MODE, D22 VO_DATA4/GPIO8_4, D23 VO_DATA9/GPIO9_1, D24 VO_CLK/GPIO4_6, E22 VO_DATA3/GPIO8_3, E23 VO_DATA8/GPIO9_0/SPI_NAND_SEL, F20 VO_DATA2/GPIO8_2/BOOTROM_SEL, F21 VO_DATA1/GPIO8_1/BOOT_SEL1, F22 VO_DATA0/GPIO8_0/BOOT_SEL0, F23 VO_DATA7/GPIO8_7/COMBO_PHY_MODE, F24 VO_DATA6/GPIO8_6, W10 AVSS_MIPI1, W17 SENSOR1_VS/GPIO0_3/SENSOR0_VS, Y9 DVDD3318_SENS0, Y10 AVDD3318_MIPI01, Y11 AVDD3318_MIPI2, Y13 DVDD3318_SENS1, Y14 VI1_DATA5/GPIO2_7, Y17 SENSOR1_HS/GPIO0_2/SENSOR0_HS
part B pins: A17 RGMII_RX_DV/GPIO10_7/VO_DATA23, A19 RGMII_RXD3/GPIO11_3/VO_DATA21, A20 RGMII_TX_CLK/GPIO10_1/VO_DATA18, AA1 SYS_RSTN_OUT/WDG_RSTN, AA3 NF_DQ0/GPIO13_0/EMMC_DATA5, AB23 JTAG_EN, AB24 JTAG_TMS/GPIO3_3, AC23 JTAG_TRSTN/GPIO3_1, AC24 JTAG_TCK/GPIO3_2, AD22 JTAG_TDI/GPIO3_5, AD23 JTAG_TDO/GPIO3_4, B17 RGMII_RXD0/RMII_RXD0/GPIO11_0, B19 RGMII_TXD1/RMII_TXD1/GPIO10_3, B20 RGMII_TXD2/GPIO10_4/VO_DATA17, B21 RGMII_TXD0/RMII_TXDO/GPIO10_2, C17 RGMII_RXD1/RMII_RXD1/GPIO11_1, C18 RGMII_RXD2/GPIO11_2/VO_DE, C19 RGMII_RX_CLK/GPIO10_6/VO_DATA19, C20 RGMII_TXD3/GPIO10_5/VO_HS, C21 RGMII_TX_EN/GPIO10_0/VO_VS, D19 EPHY_RSTN/GPIO11_4, E18 DVDDIO_RGMII1, E19 MDCK/GPIO11_6/SPI3_CSN, E20 MDIO/GPIO11_7/SPI3_SDO/I2C3_SDA, E21 EPHY_CLK/GPIO11_5/SPI3_SDI, F18 DVDDIO_RGMII2, L1 PWR_SEQ2, L2 PWR_BUTTON0, L3 PWR_RSTN, M2 PWR_EN1, M3 PWR_WAKEUP0, M4 PWR_EN0, M8 AVDD3318_PLL, N1 PWR_WAKEUP1, N2 PWR_WAKEUP2, N3 PWR_BUTTON1/UPDATE_FROM_SDIO0_N, N4 PWR_SEQ1, N5 RST_N, N6 TEST_MODE, N7 DVDD3318_PC, N8 AVSS_PLL1, P1 XIN, P2 XOUT, P3 PWR_EN2, P4 PWR_SEQ0, P8 AVSS_PLL2, R3 RTC_XIN, R4 RTC_XOUT, R5 DVDD3318_RTC_OSC, R7 AVSS_RTC, R8 AVDD09_PLL, T1 NF_ALE/GPIO14_4/EMMC_RST_N, T2 NF_DQ4/GPIO13_4/EMMC_DATA7, T4 NF_DQ5/GPIO13_5/EMMC_DATA3, T5 AVDD_BAT, U2 NF_WEN/GPIO14_5/EMMC_DATA6, U3 NF_CSN/GPIO14_2/SFC_CSN0, U4 NF_DQ7/GPIO13_7/EMMC_POWER_EN, U7 DVDD3318_EMMC1, V1 NF_DQ3/GPIO13_3/EMMC_DATA2, V4 NF_CLE/GPIO14_3/EMMC_DS, V7 DVDD3318_EMMC2, W1 NF_DQ1/GPIO13_1/EMMC_CLK, W2 NF_RDY/GPIO14_0/EMMC_CMD, W3 NF_DQ6/GPIO13_6/EMMC_DATA4, Y2 NF_REN/GPIO14_1/EMMC_DATA1, Y3 NF_DQ2/GPIO13_2/EMMC_DATA0
part C pins: A3 DDR_DQ29, A4 DDR_DQ30, A5 DDR_DQS3_N, A7 DDR_DQS2_N, A8 DDR_DQ17, A10 DDR_DQ8, A11 DDR_DQS1_N, A13 DDR_DQ3, A14 DDR_DQS0_N, A16 DDR_DQ0, B1 DDR_CLK_N, B2 DDR_CLK_P, B3 DDR_DQ24, B4 DDR_DQ31, B5 DDR_DQS3_P, B7 DDR_DQS2_P, B8 DDR_DQ20, B10 DDR_DQ10, B11 DDR_DQS1_P, B13 DDR_DQ1, B14 DDR_DQS0_P, B16 DDR_DQ2, C1 DDR_A0, C2 DDR_A3, C3 DDR_A14, C5 DDR_DQ26, C6 DDR_DQ28, C7 DDR_DQ23, C8 DDR_DQ22, C9 DDR_DQ18, C10 DDR_DQ16, C11 DDR_DQ14, C12 DDR_DQ12, C13 DDR_DQ15, C14 DDR_DQ5, C15 DDR_DQ4, C16 DDR_DQ6, D2 DDR_A1, D3 DDR_CKE0, D4 DDR_RAS_N, D6 DDR_DQ25, D9 DDR_DQ27, D10 DDR_DQ21, D13 DDR_DM1, D14 DDR_DQ13, D17 DDR_DM0, E1 DDR_A4, E2 DDR_A9, E3 DDR_CKE1, E4 DDR_CAS_N, E6 DDR_DM3, E9 DDR_DQ19, E10 DDR_DM2, E13 DDR_DQ9, E14 DDR_DQ11, E17 DDR_DQ7, F1 DDR_CS0_N, F2 DDR_CS1_N, F3 DDR_ODT, F4 DDR_A10, F5 DDR_WE_N, G2 DDR_A5, G3 DDR_BA1, H1 DDR_A8, H2 DDR_A6, H3 DDR_A11, J1 DDR_A7, J2 DDR_A2, J3 DDR_RESET_N, J4 DDR_A15, J5 DDR_BA0, K2 DDR_ZQ, K3 DDR_A13, K4 DDR_A12, K5 DDR_BA2
part D pins: A1 VSS1, A2 VSS2, A24 VSS3, B6 VSS4, B9 VSS5, B12 VSS6, B15 VSS7, D7 VSS8, D8 VSS9, D11 VSS10, D15 VSS11, E7 VSS12, E11 VSS13, E15 VSS14, E16 VSS15, F6 VSS16, F7 VSS17, F10 VSS18, F11 VSS19, F15 VSS20, F16 VSS21, F17 VSS22, G4 VSS23, G5 VSS24, G6 VSS25, G7 VSS26, G8 VSS27, G9 VSS28, G10 VSS29, G13 VSS30, G14 VSS31, G15 VSS32, G16 VSS33, G17 VSS34, G18 VSS35, G19 VSS36, H4 VSS37, H5 VSS38, H8 VSS39, H12 VSS40, H13 VSS41, H17 VSS42, H19 VSS43, H20 VSS44, J8 VSS45, J11 VSS46, J12 VSS47, J13 VSS48, J14 VSS49, J17 VSS50, J18 VSS51, K8 VSS52, K11 VSS53, K14 VSS54, K17 VSS55, L4 VSS56, L5 VSS57, L7 VSS58, L8 VSS59, L9 VSS60, L10 VSS61, L11 VSS62, L14 VSS63, L15 VSS64, L16 VSS65, L17 VSS66, L18 VSS67, M5 VSS68, M6 VSS69, M7 VSS70, M9 VSS71, M11 VSS72, M14 VSS73, M15 VSS74, M17 VSS75, M18 VSS76, M19 VSS77, M20 VSS78, M21 VSS79, N9 VSS80
part E pins: AA4 VSS152, AA7 VSS153, AA8 VSS154, AA11 VSS155, AA12 VSS156, AA15 VSS157, AA16 VSS158, AB4 VSS159, AD1 VSS160, AD24 VSS161, N11 VSS81, N12 VSS82, N13 VSS83, N14 VSS84, N17 VSS85, N18 VSS86, N19 VSS87, N20 VSS88, N21 VSS89, P9 VSS90, P11 VSS91, P12 VSS92, P13 VSS93, P14 VSS94, P15 VSS95, P17 VSS96, P18 VSS97, R2 VSS98, R9 VSS99, R11 VSS100, R13 VSS101, R15 VSS102, R17 VSS103, R18 VSS104, T3 VSS105, T6 VSS106, T7 VSS107, T8 VSS108, T9 VSS109, T11 VSS110, T13 VSS111, T15 VSS112, T17 VSS113, T18 VSS114, T19 VSS115, U8 VSS116, U9 VSS117, U10 VSS118, U11 VSS119, U13 VSS120, U15 VSS121, U16 VSS122, U18 VSS123, V8 VSS124, V9 VSS125, V10 VSS126, V11 VSS127, V12 VSS128, V13 VSS129, V14 VSS130, V15 VSS131, V16 VSS132, V17 VSS133, V18 VSS134, W4 VSS135, W5 VSS136, W6 VSS137, W7 VSS138, W8 VSS139, W9 VSS140, W12 VSS141, W13 VSS142, W14 VSS143, W15 VSS144, W16 VSS145, W18 VSS146, Y4 VSS147, Y7 VSS148, Y12 VSS149, Y15 VSS150, Y16 VSS151
part F pins: E8 VDDIO_DDR1, F8 VDDIO_CK_DDR, F9 VDDIO_DDR2, F13 VDDIO_DDR3, F14 VDDIO_DDR4, F19 DVDD33_1, G11 AVDD_DDRPLL1, G12 AVSS_DDRPLL1, H6 VDDIO_DDR5, H7 VDDIO_DDR6, H9 VDD_DDR1, H10 VDD_DDR2, H11 VDD_DDR3, H14 VDD_CPU1, H15 VDD_CPU2, H16 VDD_CPU3, J7 AVDD_DDRPLL2, J9 VDD_DDR4, J10 VDD_DDR5, J15 VDD_CPU4, J16 VDD_CPU5, K6 VDDIO_DDR7, K7 AVSS_DDRPLL2, K9 VDD_DDR6, K10 VDD_DDR7, K12 VDD1, K13 VDD2, K15 VDD_CPU6, K16 VDD_CPU7, L6 VDDIO_DDR8, L12 VDD3, L13 VDD4, M10 VDD_MEDIA1, M12 VDD5, M13 VDD6, M16 VDD_MEDIA2, N10 VDD_MEDIA3, N15 VDD_MEDIA4, N16 VDD_MEDIA5, P10 VDD_MEDIA6, P16 VDD_MEDIA7, P19 DVDD33_2, R10 VDD_MEDIA8, R12 VDD_MEDIA9, R14 VDD_MEDIA10, R16 VDD_MEDIA11, T10 VDD_MEDIA12, T12 VDD_MEDIA13, T14 VDD_MEDIA14, T16 VDD_MEDIA15, U12 VDD_MEDIA16, U14 VDD_MEDIA17, U17 DVDD33_3, Y5 AVDD18_EFUSE, Y6 AVSS_EFUSE
part G pins: AA19 PWM0/PMC_PWM0/GPIO3_6, AA20 I2C2_SCL/GPIO1_7, AA21 I2C2_SDA/GPIO1_6, AA23 AC_OUTR, AA24 AC_OUTL, AB19 PWM1/PMC_PWM1/GPIO3_7, AC19 PWM2/PMC_PWM2/GPIO4_0, AC20 SHUTTER_TRIG/GPIO1_1/PWM5, AD19 PWM3/PMC_PWM3/GPIO4_1, AD20 FLASH_TRIG/GPIO1_0/SPI2_CSN1, G20 USB2_DP, G21 USB2_DM, G22 USB2_PWREN/GPIO4_5, G23 USB3_PCIE_RXP, G24 USB3_PCIE_RXM, H18 AVDD09_U3_PCIE, H21 AVSS_USB21, H22 AVSS_U3_PCIE1, H23 USB2_REXT, J19 AVSS_USB22, J20 AVSS_U3_PCIE2, J21 AVSS_U3_PCIE3, J22 USB3_PWREN/GPIO4_2, J23 USB3_PCIE_TXP, J24 USB3_PCIE_TXM, K18 AVDD33_USB2, K19 AVDD33_U3_PCIE, K20 PCIE_REFCLKP, K21 PCIE_REFCLKM, K22 SDIO1_CARD_POWER_EN/GPIO4_4, K23 SDIO1_CDATA3/GPIO7_7, K24 SDIO1_CDATA2/GPIO7_6, L19 DVDD18_SDIO, L20 SDIO1_CWPR/GPIO7_1, L21 SDIO1_CCLK_OUT/GPIO7_2, L22 SDIO1_CCMD/GPIO7_3, L23 SDIO1_VOUT, M22 SDIO1_CARD_DETECT/GPIO7_0, M23 SDIO1_CDATA1/GPIO7_5, M24 SDIO1_CDATA0/GPIO7_4, N22 SDIO0_CARD_POWER_EN/GPIO4_3, N23 SDIO0_CDATA3/GPIO6_7, N24 SDIO0_CDATA2/GPIO6_6, P20 SDIO0_CWPR/GPIO6_1, P21 SDIO0_CCLK_OUT/GPIO6_2, P22 SDIO0_CCMD/GPIO6_3, P23 SDIO0_VOUT, R6 DVDD3318_SARADC, R19 DVDD3318_UART12, R20 UART2_CTSN/GPIO5_7/UART4_TXD, R21 UART2_RXD/GPIO5_4/PWM4, R22 SDIO0_CARD_DETECT/GPIO6_0, R23 SDIO0_CDATA1/TEST_CLK/GPIO6_5, R24 SDIO0_CDATA0/GPIO6_4, T20 UART2_RTSN/GPIO5_6/UART4_RXD, T22 UART1_TXD/GPIO5_3, T23 UART1_RTSN/GPIO5_0/UART3_RXD, T24 UART1_CTSN/GPIO5_2/UART3_TXD, U5 SAR_ADC_CH2/GPIO16_2, U6 SAR_ADC_CH1/GPIO16_1, U19 AVSS_AC1, U20 AVSS_AC2, U21 UART2_TXD/GPIO5_5/PWM5, U22 UART1_RXD/GPIO5_1, V5 POR_SEL_N, V6 SAR_ADC_CH3/GPIO16_3, V19 AVSS_AC3, V20 AVDD33_AC, V22 AC_MICBIAS0, V23 AC_IN0R/AC_IN0_N, V24 AC_IN0L/AC_IN0_P, W19 AVSS_VDAC, W20 AVDD33_VDAC, W21 VDAC_CVBS, W23 AC_VREF, Y18 UART0_RXD, Y19 UART0_TXD, Y21 VDAC_IREF, Y22 AC_MICBIAS1, Y23 AC_IN1R/AC_IN1_N, Y24 AC_IN1L/AC_IN1_P
part A text: SFC_EMMC_BOOT_MODE; SFC_DEVICE_MODE; SPI0_3WIRE_CSN; PCIE_REFCLK_SEL; SPI0_3WIRE_CLK; UPDATE_FROM_SDIO0; SPI0_3WIRE_DATA; COMBO_PHY_MODE_1/VO_VS; VO_HS; I2C3_SCL; I2C3_SDA; SPI1_3WIRE_CLK; VIVO Interface 5 of 7; SPI1_3WIRE_DATA
part B text: VO_DATA22; SPI3_SCLK/I2C3_SCL; RMII_CRS_DV; RMII_CLK; RMII_TXEN; VO_DATA16; VO_DATA20; SYS Interface 4 of 7; SFC_WP_IO2; SFC_HOLD_IO3; SFC_CLK; SFC_MOSI_IO0; I2S_MCLK/PWM5; I2S_SD_RX/IR_IN; I2S_SD_TX/PWM7; SFC_CSN1; I2S_BCLK_TX/PWM6; I2S_WS_TX/PWM4; SFC_MISO_IO1
part C text: DDR Interface 1 of 7
part D text: VSS1 Interface 6 of 7
part E text: VSS2 Interface 7 of 7
part F text: PWR Interface 3 of 7
part G text: TEMPER_DQ; PWM4; PER Interface 2 of 7; PCIE_CLK_REQ_N; PWM3; PWM7; PWM6/TEMPER_DQ

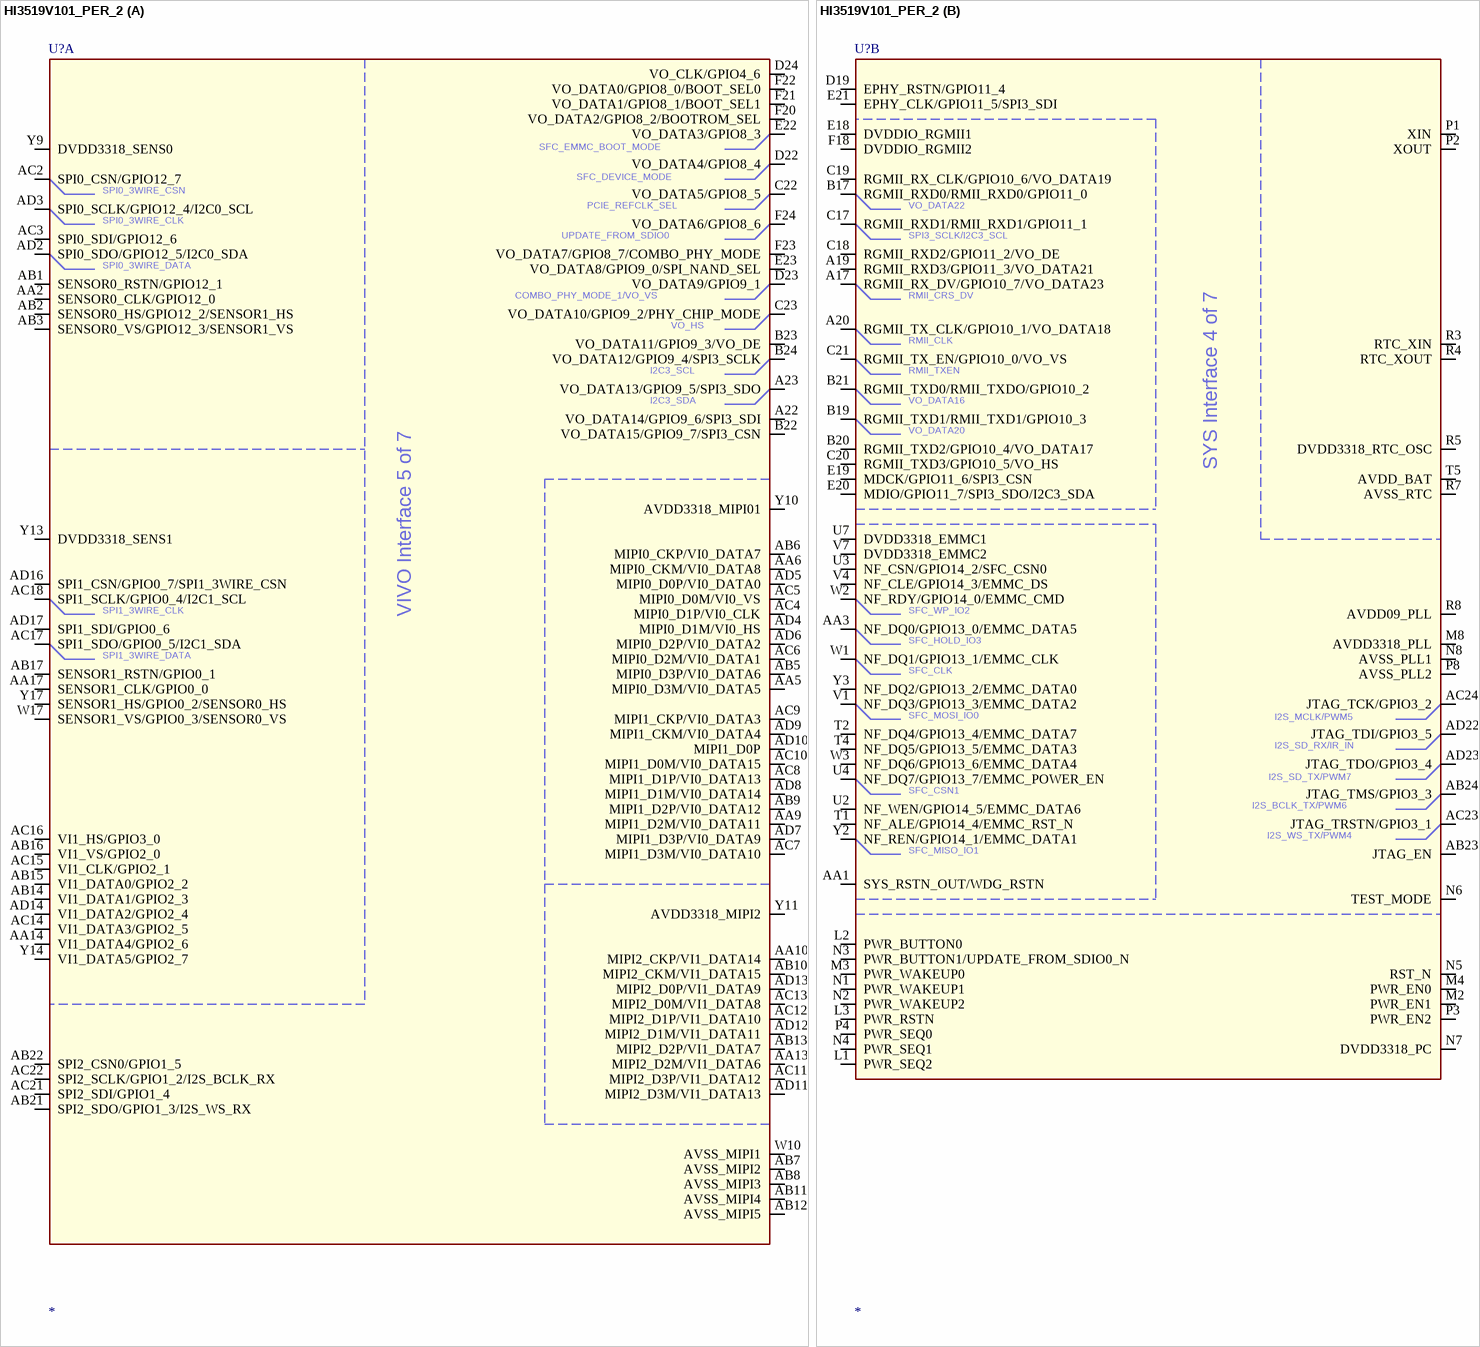
[diagram p7: symbol HI3519V101_PER_2]

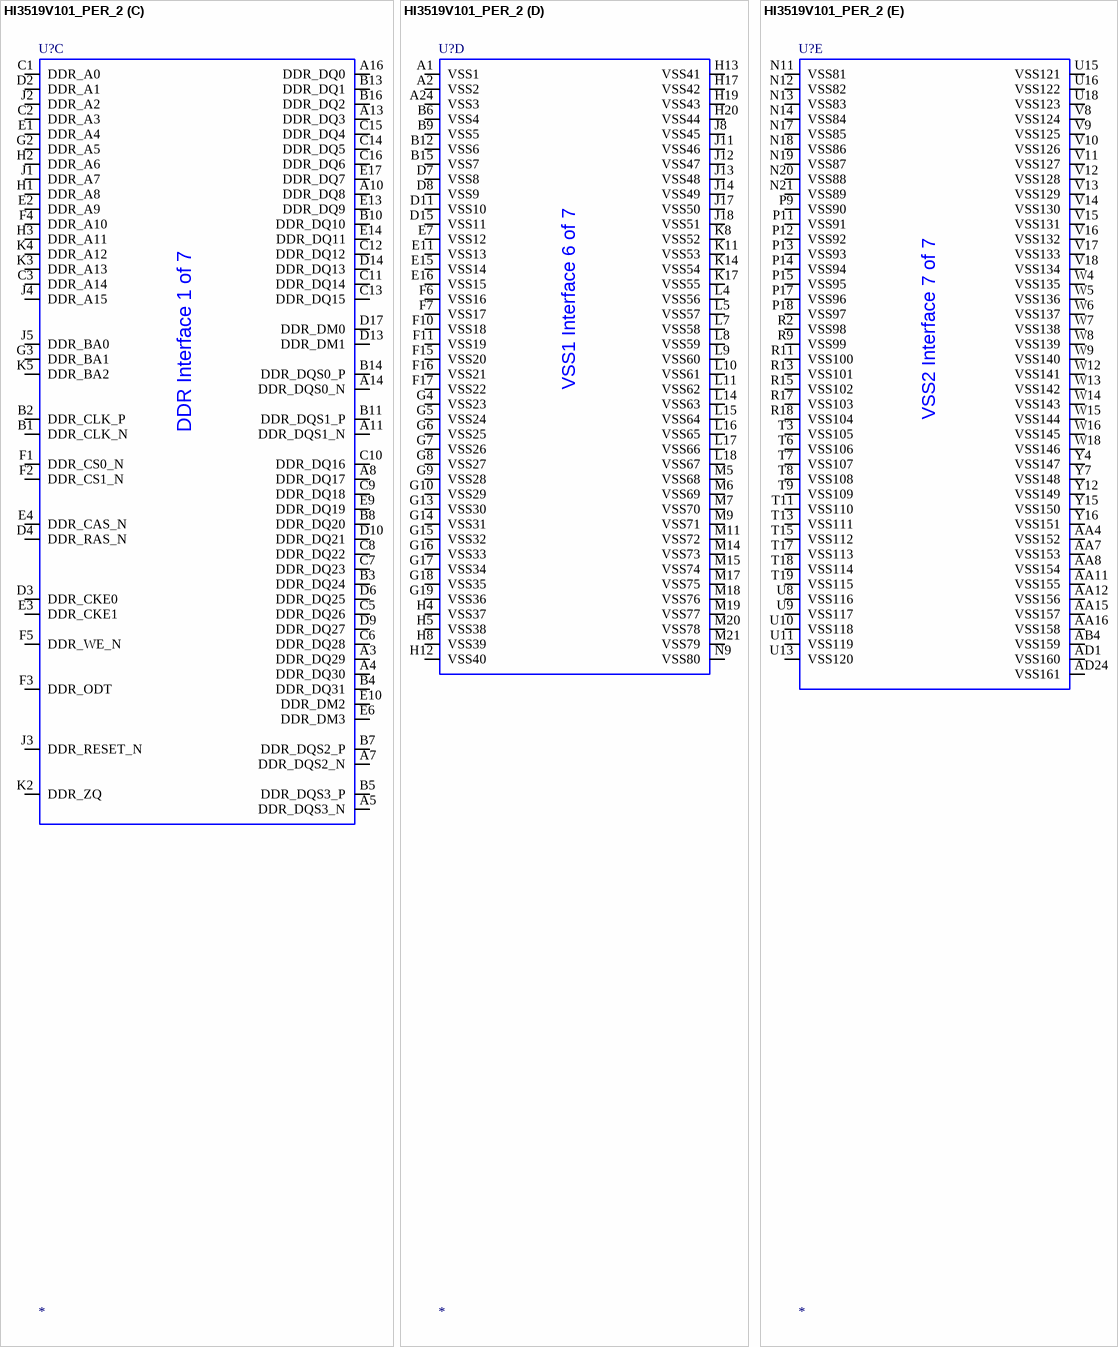
[diagram p8: symbol HI3519V101_PER_2]

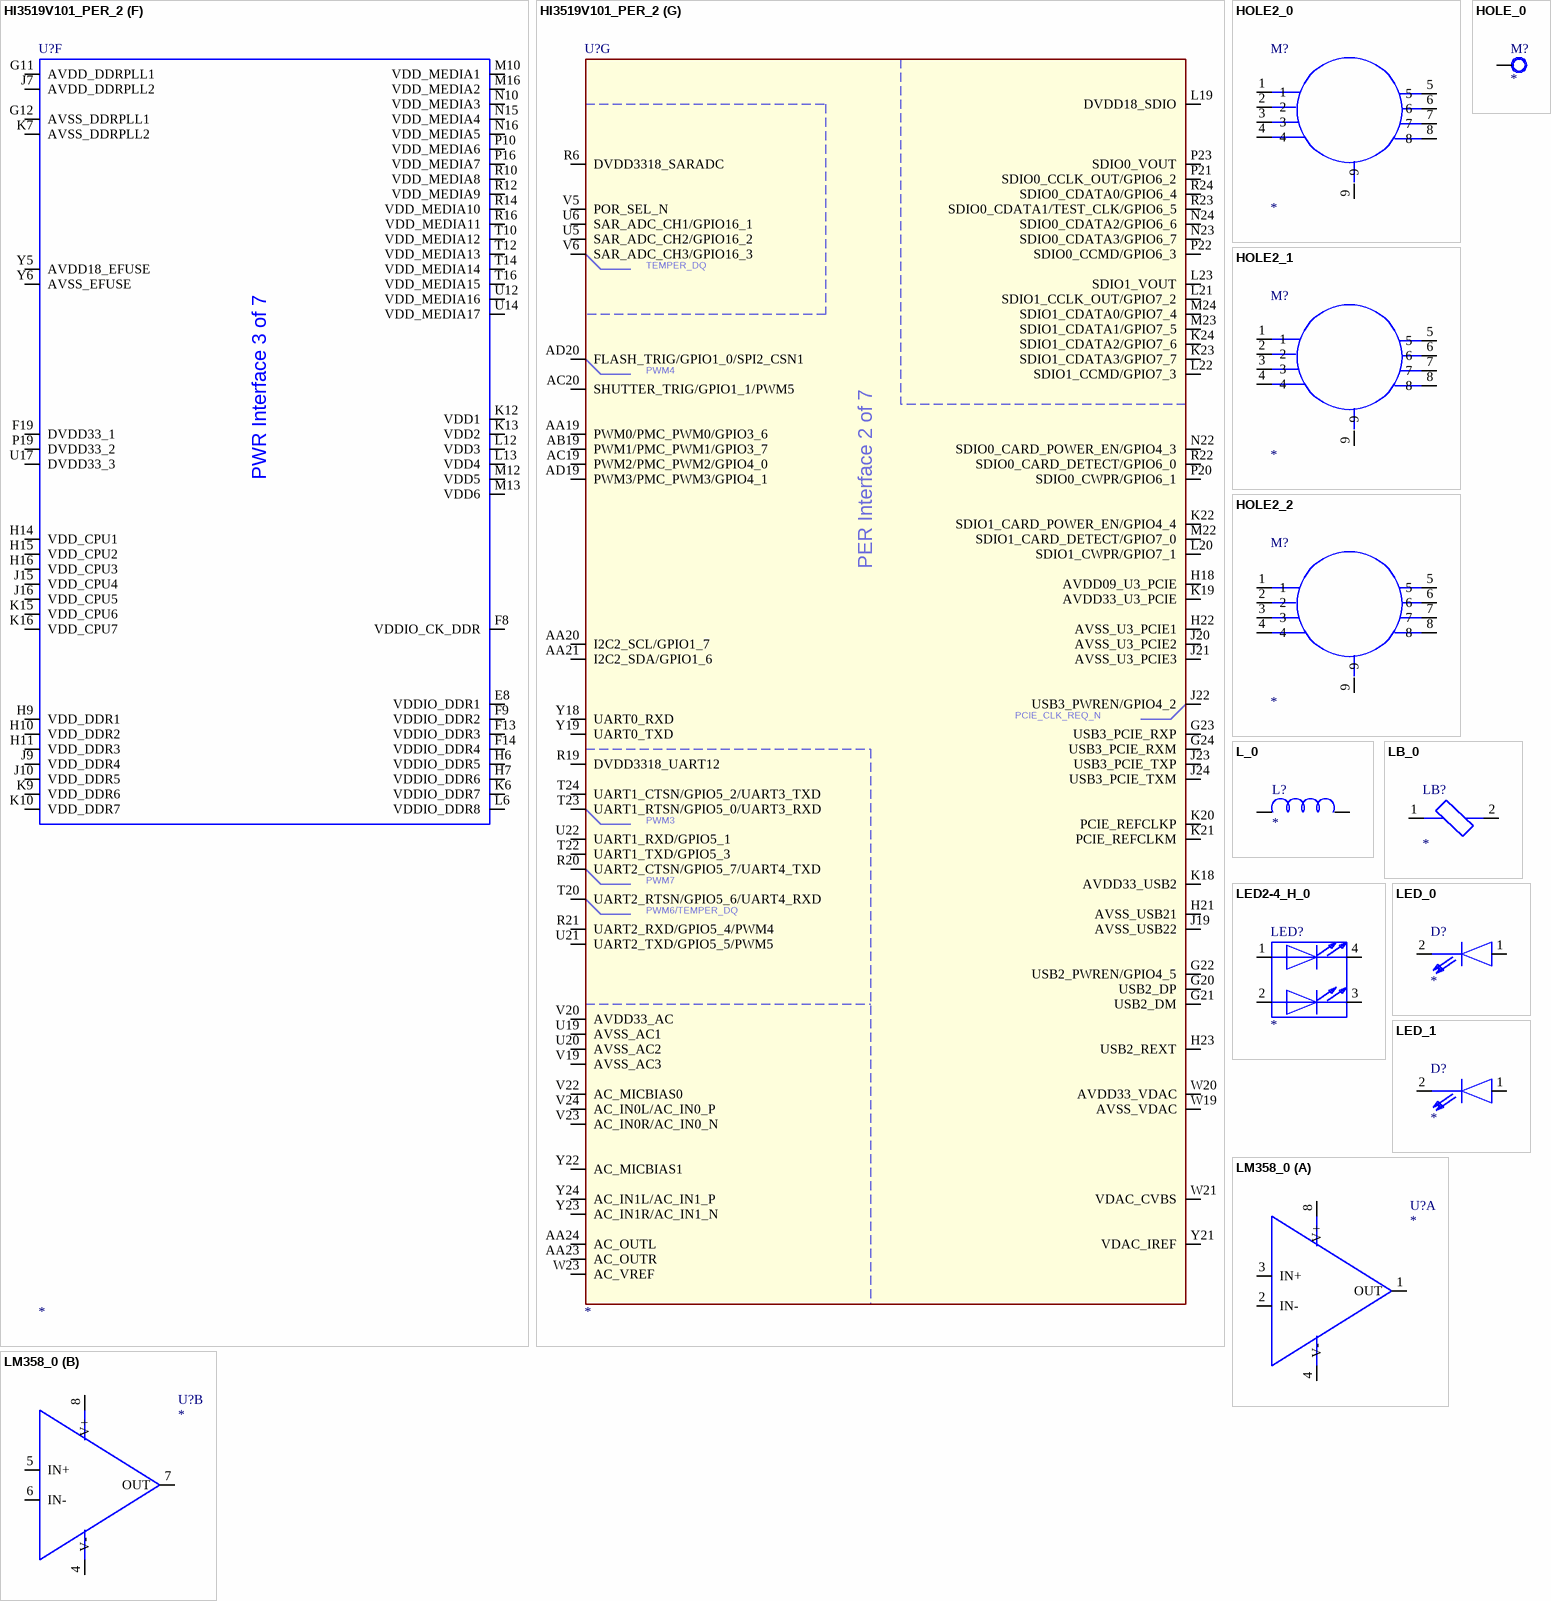
[diagram p9: symbols HI3519V101_PER_2 to LM358_0]

## HI3519V101_PER_2
designator U?
PARTS: 1; OriginalSymbolOrigin: (0,840); LEVEL: STD; HETERO: (HI3519V101_PWR),(HI3519V101_DDR),(HI3519V101_SYS),(HI3519V101_VIVO),(HI3519V101_PER),(HI3519V101_VSS1),(HI3519V101_VSS2); DEVICE: HI3519V101; FORWARD_PCB: 1
part A pins: A22 VO_DATA14/GPIO9_6/SPI3_SDI, A23 VO_DATA13/GPIO9_5/SPI3_SDO, AA2 SENSOR0_CLK/GPIO12_0, AA5 MIPI0_D3M/VI0_DATA5, AA6 MIPI0_CKM/VI0_DATA8, AA9 MIPI1_D2M/VI0_DATA11, AA10 MIPI2_CKP/VI1_DATA14, AA13 MIPI2_D2M/VI1_DATA6, AA14 VI1_DATA4/GPIO2_6, AA17 SENSOR1_CLK/GPIO0_0, AB1 SENSOR0_RSTN/GPIO12_1, AB2 SENSOR0_HS/GPIO12_2/SENSOR1_HS, AB3 SENSOR0_VS/GPIO12_3/SENSOR1_VS, AB5 MIPI0_D3P/VI0_DATA6, AB6 MIPI0_CKP/VI0_DATA7, AB7 AVSS_MIPI2, AB8 AVSS_MIPI3, AB9 MIPI1_D2P/VI0_DATA12, AB10 MIPI2_CKM/VI1_DATA15, AB11 AVSS_MIPI4, AB12 AVSS_MIPI5, AB13 MIPI2_D2P/VI1_DATA7, AB14 VI1_DATA1/GPIO2_3, AB15 VI1_DATA0/GPIO2_2, AB16 VI1_VS/GPIO2_0, AB17 SENSOR1_RSTN/GPIO0_1, AB21 SPI2_SDO/GPIO1_3/I2S_WS_RX, AB22 SPI2_CSN0/GPIO1_5, AC2 SPI0_CSN/GPIO12_7, AC3 SPI0_SDI/GPIO12_6, AC4 MIPI0_D1P/VI0_CLK, AC5 MIPI0_D0M/VI0_VS, AC6 MIPI0_D2M/VI0_DATA1, AC7 MIPI1_D3M/VI0_DATA10, AC8 MIPI1_D1P/VI0_DATA13, AC9 MIPI1_CKP/VI0_DATA3, AC10 MIPI1_D0M/VI0_DATA15, AC11 MIPI2_D3P/VI1_DATA12, AC12 MIPI2_D1P/VI1_DATA10, AC13 MIPI2_D0M/VI1_DATA8, AC14 VI1_DATA3/GPIO2_5, AC15 VI1_CLK/GPIO2_1, AC16 VI1_HS/GPIO3_0, AC17 SPI1_SDO/GPIO0_5/I2C1_SDA, AC18 SPI1_SCLK/GPIO0_4/I2C1_SCL, AC21 SPI2_SDI/GPIO1_4, AC22 SPI2_SCLK/GPIO1_2/I2S_BCLK_RX, AD2 SPI0_SDO/GPIO12_5/I2C0_SDA, AD3 SPI0_SCLK/GPIO12_4/I2C0_SCL, AD4 MIPI0_D1M/VI0_HS, AD5 MIPI0_D0P/VI0_DATA0, AD6 MIPI0_D2P/VI0_DATA2, AD7 MIPI1_D3P/VI0_DATA9, AD8 MIPI1_D1M/VI0_DATA14, AD9 MIPI1_CKM/VI0_DATA4, AD10 MIPI1_D0P, AD11 MIPI2_D3M/VI1_DATA13, AD12 MIPI2_D1M/VI1_DATA11, AD13 MIPI2_D0P/VI1_DATA9, AD14 VI1_DATA2/GPIO2_4, AD16 SPI1_CSN/GPIO0_7/SPI1_3WIRE_CSN, AD17 SPI1_SDI/GPIO0_6, B22 VO_DATA15/GPIO9_7/SPI3_CSN, B23 VO_DATA11/GPIO9_3/VO_DE, B24 VO_DATA12/GPIO9_4/SPI3_SCLK, C22 VO_DATA5/GPIO8_5, C23 VO_DATA10/GPIO9_2/PHY_CHIP_MODE, D22 VO_DATA4/GPIO8_4, D23 VO_DATA9/GPIO9_1, D24 VO_CLK/GPIO4_6, E22 VO_DATA3/GPIO8_3, E23 VO_DATA8/GPIO9_0/SPI_NAND_SEL, F20 VO_DATA2/GPIO8_2/BOOTROM_SEL, F21 VO_DATA1/GPIO8_1/BOOT_SEL1, F22 VO_DATA0/GPIO8_0/BOOT_SEL0, F23 VO_DATA7/GPIO8_7/COMBO_PHY_MODE, F24 VO_DATA6/GPIO8_6, W10 AVSS_MIPI1, W17 SENSOR1_VS/GPIO0_3/SENSOR0_VS, Y9 DVDD3318_SENS0, Y10 AVDD3318_MIPI01, Y11 AVDD3318_MIPI2, Y13 DVDD3318_SENS1, Y14 VI1_DATA5/GPIO2_7, Y17 SENSOR1_HS/GPIO0_2/SENSOR0_HS
part B pins: A17 RGMII_RX_DV/GPIO10_7/VO_DATA23, A19 RGMII_RXD3/GPIO11_3/VO_DATA21, A20 RGMII_TX_CLK/GPIO10_1/VO_DATA18, AA1 SYS_RSTN_OUT/WDG_RSTN, AA3 NF_DQ0/GPIO13_0/EMMC_DATA5, AB23 JTAG_EN, AB24 JTAG_TMS/GPIO3_3, AC23 JTAG_TRSTN/GPIO3_1, AC24 JTAG_TCK/GPIO3_2, AD22 JTAG_TDI/GPIO3_5, AD23 JTAG_TDO/GPIO3_4, B17 RGMII_RXD0/RMII_RXD0/GPIO11_0, B19 RGMII_TXD1/RMII_TXD1/GPIO10_3, B20 RGMII_TXD2/GPIO10_4/VO_DATA17, B21 RGMII_TXD0/RMII_TXDO/GPIO10_2, C17 RGMII_RXD1/RMII_RXD1/GPIO11_1, C18 RGMII_RXD2/GPIO11_2/VO_DE, C19 RGMII_RX_CLK/GPIO10_6/VO_DATA19, C20 RGMII_TXD3/GPIO10_5/VO_HS, C21 RGMII_TX_EN/GPIO10_0/VO_VS, D19 EPHY_RSTN/GPIO11_4, E18 DVDDIO_RGMII1, E19 MDCK/GPIO11_6/SPI3_CSN, E20 MDIO/GPIO11_7/SPI3_SDO/I2C3_SDA, E21 EPHY_CLK/GPIO11_5/SPI3_SDI, F18 DVDDIO_RGMII2, L1 PWR_SEQ2, L2 PWR_BUTTON0, L3 PWR_RSTN, M2 PWR_EN1, M3 PWR_WAKEUP0, M4 PWR_EN0, M8 AVDD3318_PLL, N1 PWR_WAKEUP1, N2 PWR_WAKEUP2, N3 PWR_BUTTON1/UPDATE_FROM_SDIO0_N, N4 PWR_SEQ1, N5 RST_N, N6 TEST_MODE, N7 DVDD3318_PC, N8 AVSS_PLL1, P1 XIN, P2 XOUT, P3 PWR_EN2, P4 PWR_SEQ0, P8 AVSS_PLL2, R3 RTC_XIN, R4 RTC_XOUT, R5 DVDD3318_RTC_OSC, R7 AVSS_RTC, R8 AVDD09_PLL, T1 NF_ALE/GPIO14_4/EMMC_RST_N, T2 NF_DQ4/GPIO13_4/EMMC_DATA7, T4 NF_DQ5/GPIO13_5/EMMC_DATA3, T5 AVDD_BAT, U2 NF_WEN/GPIO14_5/EMMC_DATA6, U3 NF_CSN/GPIO14_2/SFC_CSN0, U4 NF_DQ7/GPIO13_7/EMMC_POWER_EN, U7 DVDD3318_EMMC1, V1 NF_DQ3/GPIO13_3/EMMC_DATA2, V4 NF_CLE/GPIO14_3/EMMC_DS, V7 DVDD3318_EMMC2, W1 NF_DQ1/GPIO13_1/EMMC_CLK, W2 NF_RDY/GPIO14_0/EMMC_CMD, W3 NF_DQ6/GPIO13_6/EMMC_DATA4, Y2 NF_REN/GPIO14_1/EMMC_DATA1, Y3 NF_DQ2/GPIO13_2/EMMC_DATA0
part C pins: A3 DDR_DQ29, A4 DDR_DQ30, A5 DDR_DQS3_N, A7 DDR_DQS2_N, A8 DDR_DQ17, A10 DDR_DQ8, A11 DDR_DQS1_N, A13 DDR_DQ3, A14 DDR_DQS0_N, A16 DDR_DQ0, B1 DDR_CLK_N, B2 DDR_CLK_P, B3 DDR_DQ24, B4 DDR_DQ31, B5 DDR_DQS3_P, B7 DDR_DQS2_P, B8 DDR_DQ20, B10 DDR_DQ10, B11 DDR_DQS1_P, B13 DDR_DQ1, B14 DDR_DQS0_P, B16 DDR_DQ2, C1 DDR_A0, C2 DDR_A3, C3 DDR_A14, C5 DDR_DQ26, C6 DDR_DQ28, C7 DDR_DQ23, C8 DDR_DQ22, C9 DDR_DQ18, C10 DDR_DQ16, C11 DDR_DQ14, C12 DDR_DQ12, C13 DDR_DQ15, C14 DDR_DQ5, C15 DDR_DQ4, C16 DDR_DQ6, D2 DDR_A1, D3 DDR_CKE0, D4 DDR_RAS_N, D6 DDR_DQ25, D9 DDR_DQ27, D10 DDR_DQ21, D13 DDR_DM1, D14 DDR_DQ13, D17 DDR_DM0, E1 DDR_A4, E2 DDR_A9, E3 DDR_CKE1, E4 DDR_CAS_N, E6 DDR_DM3, E9 DDR_DQ19, E10 DDR_DM2, E13 DDR_DQ9, E14 DDR_DQ11, E17 DDR_DQ7, F1 DDR_CS0_N, F2 DDR_CS1_N, F3 DDR_ODT, F4 DDR_A10, F5 DDR_WE_N, G2 DDR_A5, G3 DDR_BA1, H1 DDR_A8, H2 DDR_A6, H3 DDR_A11, J1 DDR_A7, J2 DDR_A2, J3 DDR_RESET_N, J4 DDR_A15, J5 DDR_BA0, K2 DDR_ZQ, K3 DDR_A13, K4 DDR_A12, K5 DDR_BA2
part D pins: A1 VSS1, A2 VSS2, A24 VSS3, B6 VSS4, B9 VSS5, B12 VSS6, B15 VSS7, D7 VSS8, D8 VSS9, D11 VSS10, D15 VSS11, E7 VSS12, E11 VSS13, E15 VSS14, E16 VSS15, F6 VSS16, F7 VSS17, F10 VSS18, F11 VSS19, F15 VSS20, F16 VSS21, F17 VSS22, G4 VSS23, G5 VSS24, G6 VSS25, G7 VSS26, G8 VSS27, G9 VSS28, G10 VSS29, G13 VSS30, G14 VSS31, G15 VSS32, G16 VSS33, G17 VSS34, G18 VSS35, G19 VSS36, H4 VSS37, H5 VSS38, H8 VSS39, H12 VSS40, H13 VSS41, H17 VSS42, H19 VSS43, H20 VSS44, J8 VSS45, J11 VSS46, J12 VSS47, J13 VSS48, J14 VSS49, J17 VSS50, J18 VSS51, K8 VSS52, K11 VSS53, K14 VSS54, K17 VSS55, L4 VSS56, L5 VSS57, L7 VSS58, L8 VSS59, L9 VSS60, L10 VSS61, L11 VSS62, L14 VSS63, L15 VSS64, L16 VSS65, L17 VSS66, L18 VSS67, M5 VSS68, M6 VSS69, M7 VSS70, M9 VSS71, M11 VSS72, M14 VSS73, M15 VSS74, M17 VSS75, M18 VSS76, M19 VSS77, M20 VSS78, M21 VSS79, N9 VSS80
part E pins: AA4 VSS152, AA7 VSS153, AA8 VSS154, AA11 VSS155, AA12 VSS156, AA15 VSS157, AA16 VSS158, AB4 VSS159, AD1 VSS160, AD24 VSS161, N11 VSS81, N12 VSS82, N13 VSS83, N14 VSS84, N17 VSS85, N18 VSS86, N19 VSS87, N20 VSS88, N21 VSS89, P9 VSS90, P11 VSS91, P12 VSS92, P13 VSS93, P14 VSS94, P15 VSS95, P17 VSS96, P18 VSS97, R2 VSS98, R9 VSS99, R11 VSS100, R13 VSS101, R15 VSS102, R17 VSS103, R18 VSS104, T3 VSS105, T6 VSS106, T7 VSS107, T8 VSS108, T9 VSS109, T11 VSS110, T13 VSS111, T15 VSS112, T17 VSS113, T18 VSS114, T19 VSS115, U8 VSS116, U9 VSS117, U10 VSS118, U11 VSS119, U13 VSS120, U15 VSS121, U16 VSS122, U18 VSS123, V8 VSS124, V9 VSS125, V10 VSS126, V11 VSS127, V12 VSS128, V13 VSS129, V14 VSS130, V15 VSS131, V16 VSS132, V17 VSS133, V18 VSS134, W4 VSS135, W5 VSS136, W6 VSS137, W7 VSS138, W8 VSS139, W9 VSS140, W12 VSS141, W13 VSS142, W14 VSS143, W15 VSS144, W16 VSS145, W18 VSS146, Y4 VSS147, Y7 VSS148, Y12 VSS149, Y15 VSS150, Y16 VSS151
part F pins: E8 VDDIO_DDR1, F8 VDDIO_CK_DDR, F9 VDDIO_DDR2, F13 VDDIO_DDR3, F14 VDDIO_DDR4, F19 DVDD33_1, G11 AVDD_DDRPLL1, G12 AVSS_DDRPLL1, H6 VDDIO_DDR5, H7 VDDIO_DDR6, H9 VDD_DDR1, H10 VDD_DDR2, H11 VDD_DDR3, H14 VDD_CPU1, H15 VDD_CPU2, H16 VDD_CPU3, J7 AVDD_DDRPLL2, J9 VDD_DDR4, J10 VDD_DDR5, J15 VDD_CPU4, J16 VDD_CPU5, K6 VDDIO_DDR7, K7 AVSS_DDRPLL2, K9 VDD_DDR6, K10 VDD_DDR7, K12 VDD1, K13 VDD2, K15 VDD_CPU6, K16 VDD_CPU7, L6 VDDIO_DDR8, L12 VDD3, L13 VDD4, M10 VDD_MEDIA1, M12 VDD5, M13 VDD6, M16 VDD_MEDIA2, N10 VDD_MEDIA3, N15 VDD_MEDIA4, N16 VDD_MEDIA5, P10 VDD_MEDIA6, P16 VDD_MEDIA7, P19 DVDD33_2, R10 VDD_MEDIA8, R12 VDD_MEDIA9, R14 VDD_MEDIA10, R16 VDD_MEDIA11, T10 VDD_MEDIA12, T12 VDD_MEDIA13, T14 VDD_MEDIA14, T16 VDD_MEDIA15, U12 VDD_MEDIA16, U14 VDD_MEDIA17, U17 DVDD33_3, Y5 AVDD18_EFUSE, Y6 AVSS_EFUSE
part G pins: AA19 PWM0/PMC_PWM0/GPIO3_6, AA20 I2C2_SCL/GPIO1_7, AA21 I2C2_SDA/GPIO1_6, AA23 AC_OUTR, AA24 AC_OUTL, AB19 PWM1/PMC_PWM1/GPIO3_7, AC19 PWM2/PMC_PWM2/GPIO4_0, AC20 SHUTTER_TRIG/GPIO1_1/PWM5, AD19 PWM3/PMC_PWM3/GPIO4_1, AD20 FLASH_TRIG/GPIO1_0/SPI2_CSN1, G20 USB2_DP, G21 USB2_DM, G22 USB2_PWREN/GPIO4_5, G23 USB3_PCIE_RXP, G24 USB3_PCIE_RXM, H18 AVDD09_U3_PCIE, H21 AVSS_USB21, H22 AVSS_U3_PCIE1, H23 USB2_REXT, J19 AVSS_USB22, J20 AVSS_U3_PCIE2, J21 AVSS_U3_PCIE3, J22 USB3_PWREN/GPIO4_2, J23 USB3_PCIE_TXP, J24 USB3_PCIE_TXM, K18 AVDD33_USB2, K19 AVDD33_U3_PCIE, K20 PCIE_REFCLKP, K21 PCIE_REFCLKM, K22 SDIO1_CARD_POWER_EN/GPIO4_4, K23 SDIO1_CDATA3/GPIO7_7, K24 SDIO1_CDATA2/GPIO7_6, L19 DVDD18_SDIO, L20 SDIO1_CWPR/GPIO7_1, L21 SDIO1_CCLK_OUT/GPIO7_2, L22 SDIO1_CCMD/GPIO7_3, L23 SDIO1_VOUT, M22 SDIO1_CARD_DETECT/GPIO7_0, M23 SDIO1_CDATA1/GPIO7_5, M24 SDIO1_CDATA0/GPIO7_4, N22 SDIO0_CARD_POWER_EN/GPIO4_3, N23 SDIO0_CDATA3/GPIO6_7, N24 SDIO0_CDATA2/GPIO6_6, P20 SDIO0_CWPR/GPIO6_1, P21 SDIO0_CCLK_OUT/GPIO6_2, P22 SDIO0_CCMD/GPIO6_3, P23 SDIO0_VOUT, R6 DVDD3318_SARADC, R19 DVDD3318_UART12, R20 UART2_CTSN/GPIO5_7/UART4_TXD, R21 UART2_RXD/GPIO5_4/PWM4, R22 SDIO0_CARD_DETECT/GPIO6_0, R23 SDIO0_CDATA1/TEST_CLK/GPIO6_5, R24 SDIO0_CDATA0/GPIO6_4, T20 UART2_RTSN/GPIO5_6/UART4_RXD, T22 UART1_TXD/GPIO5_3, T23 UART1_RTSN/GPIO5_0/UART3_RXD, T24 UART1_CTSN/GPIO5_2/UART3_TXD, U5 SAR_ADC_CH2/GPIO16_2, U6 SAR_ADC_CH1/GPIO16_1, U19 AVSS_AC1, U20 AVSS_AC2, U21 UART2_TXD/GPIO5_5/PWM5, U22 UART1_RXD/GPIO5_1, V5 POR_SEL_N, V6 SAR_ADC_CH3/GPIO16_3, V19 AVSS_AC3, V20 AVDD33_AC, V22 AC_MICBIAS0, V23 AC_IN0R/AC_IN0_N, V24 AC_IN0L/AC_IN0_P, W19 AVSS_VDAC, W20 AVDD33_VDAC, W21 VDAC_CVBS, W23 AC_VREF, Y18 UART0_RXD, Y19 UART0_TXD, Y21 VDAC_IREF, Y22 AC_MICBIAS1, Y23 AC_IN1R/AC_IN1_N, Y24 AC_IN1L/AC_IN1_P
part A text: SFC_EMMC_BOOT_MODE; SFC_DEVICE_MODE; SPI0_3WIRE_CSN; PCIE_REFCLK_SEL; SPI0_3WIRE_CLK; UPDATE_FROM_SDIO0; SPI0_3WIRE_DATA; COMBO_PHY_MODE_1/VO_VS; VO_HS; I2C3_SCL; I2C3_SDA; SPI1_3WIRE_CLK; VIVO Interface 5 of 7; SPI1_3WIRE_DATA
part B text: VO_DATA22; SPI3_SCLK/I2C3_SCL; RMII_CRS_DV; RMII_CLK; RMII_TXEN; VO_DATA16; VO_DATA20; SYS Interface 4 of 7; SFC_WP_IO2; SFC_HOLD_IO3; SFC_CLK; SFC_MOSI_IO0; I2S_MCLK/PWM5; I2S_SD_RX/IR_IN; I2S_SD_TX/PWM7; SFC_CSN1; I2S_BCLK_TX/PWM6; I2S_WS_TX/PWM4; SFC_MISO_IO1
part C text: DDR Interface 1 of 7
part D text: VSS1 Interface 6 of 7
part E text: VSS2 Interface 7 of 7
part F text: PWR Interface 3 of 7
part G text: TEMPER_DQ; PWM4; PER Interface 2 of 7; PCIE_CLK_REQ_N; PWM3; PWM7; PWM6/TEMPER_DQ

## HOLE2_0
designator M?
PARTS: 1; PKG_TYPE: MTH_C6MMD3P2MM; DEVICE: HOLE; LEVEL: STD; OriginalSymbolOrigin: (0,89)
pins: 1, 2, 3, 4, 5, 6, 7, 8, 9

## HOLE2_1
designator M?
PARTS: 1; PKG_TYPE: MTH_C6MMD3P2MM; DEVICE: HOLE; LEVEL: STD; OriginalSymbolOrigin: (0,89)
pins: 1, 2, 3, 4, 5, 6, 7, 8, 9

## HOLE2_2
designator M?
PARTS: 1; OriginalSymbolOrigin: (0,89); LEVEL: STD; DEVICE: HOLE; PKG_TYPE: MTH_C6MMD3P2MM
pins: 1, 2, 3, 4, 5, 6, 7, 8, 9

## HOLE_0
designator M?
PARTS: 1; OriginalSymbolOrigin: (20,20); PKG_TYPE: HOLE95-M2; LEVEL: STD; DEVICE: HOLE
pins: 1 GND

## L_0
designator L?
PARTS: 1; OriginalSymbolOrigin: (20,20); PKG_TYPE: 2; LEVEL: STD; DEVICE: L
pins: 1 A, 2 B

## LB_0
designator LB?
PARTS: 1; OriginalSymbolOrigin: (20,50); LEVEL: STD; DEVICE: LB
pins: 1, 2

## LED2-4_H_0
designator LED?
PARTS: 1; OriginalSymbolOrigin: (20,60); LEVEL: STD; DEVICE: 19-223-R7G6C-A01-2T
pins: 1 A1, 2 A2, 3 K2, 4 K1

## LED_0
designator D?
PARTS: 1; OriginalSymbolOrigin: (10,20); DEVICE: LED; PKG_TYPE: 2; LEVEL: STD
pins: 1 A, 2 B

## LED_1
designator D?
PARTS: 1; OriginalSymbolOrigin: (10,20); DEVICE: LED; PKG_TYPE: 2; LEVEL: STD
pins: 1 A, 2 B

## LM358_0
designator U?
PARTS: 2; DEVICE: LM358; LEVEL: STD; OriginalSymbolOrigin: (20,110)
part A pins: 1 OUT, 2 IN-, 3 IN+, 4 V-, 8 V+
part B pins: 4 V-, 5 IN+, 6 IN-, 7 OUT, 8 V+

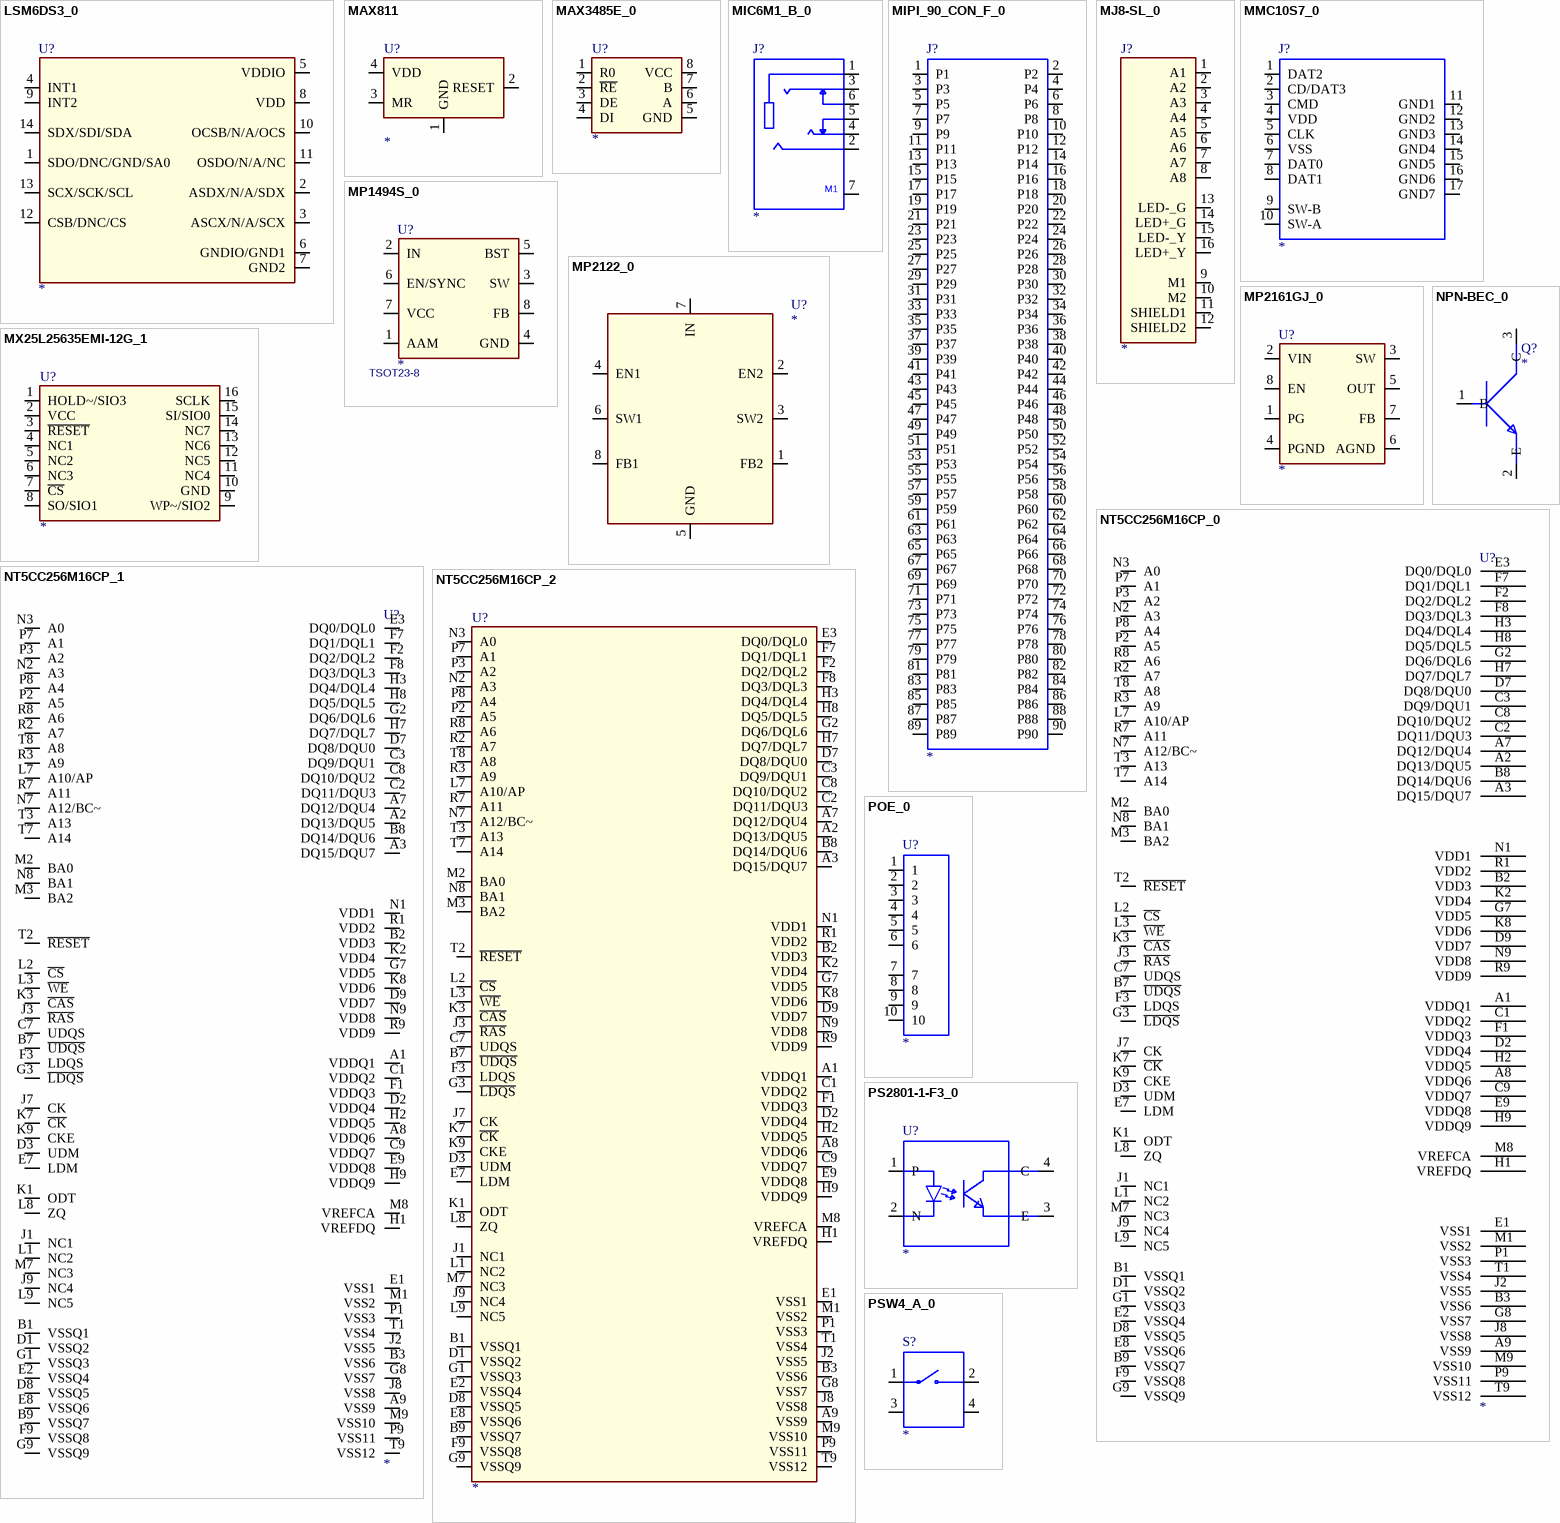
[diagram p10: symbols LSM6DS3_0 to PSW4_A_0]

## LSM6DS3_0
designator U?
FORWARD_PCB: 1; DEVICE: LSM6DS3; LEVEL: STD; OriginalSymbolOrigin: (20,160); PARTS: 1
pins: 1 SDO/DNC/GND/SA0, 2 ASDX/N/A/SDX, 3 ASCX/N/A/SCX, 4 INT1, 5 VDDIO, 6 GNDIO/GND1, 7 GND2, 8 VDD, 9 INT2, 10 OCSB/N/A/OCS, 11 OSDO/N/A/NC, 12 CSB/DNC/CS, 13 SCX/SCK/SCL, 14 SDX/SDI/SDA

## MAX811
designator U?
footprint SOT23-4
pins: 1 GND, 2 RESET, 3 MR, 4 VDD

## MAX3485E_0
designator U?
PARTS: 1; DEVICE: ADM3485E; LEVEL: STD; OriginalSymbolOrigin: (10,50)
pins: 1 R0, 2 ~{RE}, 3 DE, 4 DI, 5 GND, 6 A, 7 B, 8 VCC

## MIC6M1_B_0
designator J?
FORWARD_PCB: 1; DEVICE: 3-2-11-0058; LEVEL: STD; OriginalSymbolOrigin: (20,110); PARTS: 1
pins: 1 P1, 2 P2, 3 P3, 4 P4, 5 P5, 6 P6, 7 M1

## MIPI_90_CON_F_0
designator J?
PARTS: 1; OriginalSymbolOrigin: (20,470); LEVEL: STD; DEVICE: MIPI_90_CON_F
pins: 1 P1, 2 P2, 3 P3, 4 P4, 5 P5, 6 P6, 7 P7, 8 P8, 9 P9, 10 P10, 11 P11, 12 P12, 13 P13, 14 P14, 15 P15, 16 P16, 17 P17, 18 P18, 19 P19, 20 P20, 21 P21, 22 P22, 23 P23, 24 P24, 25 P25, 26 P26, 27 P27, 28 P28, 29 P29, 30 P30, 31 P31, 32 P32, 33 P33, 34 P34, 35 P35, 36 P36, 37 P37, 38 P38, 39 P39, 40 P40, 41 P41, 42 P42, 43 P43, 44 P44, 45 P45, 46 P46, 47 P47, 48 P48, 49 P49, 50 P50, 51 P51, 52 P52, 53 P53, 54 P54, 55 P55, 56 P56, 57 P57, 58 P58, 59 P59, 60 P60, 61 P61, 62 P62, 63 P63, 64 P64, 65 P65, 66 P66, 67 P67, 68 P68, 69 P69, 70 P70, 71 P71, 72 P72, 73 P73, 74 P74, 75 P75, 76 P76, 77 P77, 78 P78, 79 P79, 80 P80, 81 P81, 82 P82, 83 P83, 84 P84, 85 P85, 86 P86, 87 P87, 88 P88, 89 P89, 90 P90

## MJ8-SL_0
designator J?
PARTS: 1; DEVICE: MJ8_L; LEVEL: STD; OriginalSymbolOrigin: (0,190)
pins: 1 A1, 2 A2, 3 A3, 4 A4, 5 A5, 6 A6, 7 A7, 8 A8, 9 M1, 10 M2, 11 SHIELD1, 12 SHIELD2, 13 LED-_G, 14 LED+_G, 15 LED-_Y, 16 LED+_Y

## MMC10S7_0
designator J?
FORWARD_PCB: 1; DEVICE: APPO_DM3ND; LEVEL: STD; OriginalSymbolOrigin: (20,130); PARTS: 1
pins: 1 DAT2, 2 CD/DAT3, 3 CMD, 4 VDD, 5 CLK, 6 VSS, 7 DAT0, 8 DAT1, 9 SW-B, 10 SW-A, 11 GND1, 12 GND2, 13 GND3, 14 GND4, 15 GND5, 16 GND6, 17 GND7

## MP1494S_0
designator U?  PKG_TYPE: TSOT23-8
PARTS: 1; DEVICE: MP1494S; LEVEL: STD; OriginalSymbolOrigin: (20,90)
pins: 1 AAM, 2 IN, 3 SW, 4 GND, 5 BST, 6 EN/SYNC, 7 VCC, 8 FB

## MP2122_0
designator U?
PARTS: 1; DEVICE: MP2122; LEVEL: STD; OriginalSymbolOrigin: (0,135)
pins: 1 FB2, 2 EN2, 3 SW2, 4 EN1, 5 GND, 6 SW1, 7 IN, 8 FB1

## MP2161GJ_0
designator U?
PARTS: 1; OriginalSymbolOrigin: (20,90); LEVEL: STD; DEVICE: MP2161GJ; FORWARD_PCB: 1
pins: 1 PG, 2 VIN, 3 SW, 4 PGND, 5 OUT, 6 AGND, 7 FB, 8 EN

## MX25L25635EMI-12G_1
designator U?
PARTS: 1; OriginalSymbolOrigin: (10,100); LEVEL: STD; DEVICE: MX25L25635EMI-12G
pins: 1 HOLD~/SIO3, 2 VCC, 3 ~{RESET}, 4 NC1, 5 NC2, 6 NC3, 7 ~{CS}, 8 SO/SIO1, 9 WP~/SIO2, 10 GND, 11 NC4, 12 NC5, 13 NC6, 14 NC7, 15 SI/SIO0, 16 SCLK

## NPN-BEC_0
designator Q?
PARTS: 1; OriginalSymbolOrigin: (20,90); CODE: 15050155; PKG_TYPE: A; LEVEL: STD; DEVICE: NPN-BEC
pins: 1 B, 2 E, 3 C

## NT5CC256M16CP_0
designator U?
FORWARD_PCB: 1; DEVICE: NT5CC256M16CP; LEVEL: STD; OriginalSymbolOrigin: (10,580); PARTS: 1
pins: A1 VDDQ1, A2 DQ13/DQU5, A3 DQ15/DQU7, A7 DQ12/DQU4, A8 VDDQ6, A9 VSS9, B1 VSSQ1, B2 VDD3, B3 VSS6, B7 ~{UDQS}, B8 DQ14/DQU6, B9 VSSQ7, C1 VDDQ2, C2 DQ11/DQU3, C3 DQ9/DQU1, C7 UDQS, C8 DQ10/DQU2, C9 VDDQ7, D1 VSSQ2, D2 VDDQ4, D3 UDM, D7 DQ8/DQU0, D8 VSSQ5, D9 VDD7, E1 VSS1, E2 VSSQ4, E3 DQ0/DQL0, E7 LDM, E8 VSSQ6, E9 VDDQ8, F1 VDDQ3, F2 DQ2/DQL2, F3 LDQS, F7 DQ1/DQL1, F8 DQ3/DQL3, F9 VSSQ8, G1 VSSQ3, G2 DQ6/DQL6, G3 ~{LDQS}, G7 VDD5, G8 VSS7, G9 VSSQ9, H1 VREFDQ, H2 VDDQ5, H3 DQ4/DQL4, H7 DQ7/DQL7, H8 DQ5/DQL5, H9 VDDQ9, J1 NC1, J2 VSS5, J3 ~{RAS}, J7 CK, J8 VSS8, J9 NC4, K1 ODT, K2 VDD4, K3 ~{CAS}, K7 ~{CK}, K8 VDD6, K9 CKE, L1 NC2, L2 ~{CS}, L3 ~{WE}, L7 A10/AP, L8 ZQ, L9 NC5, M1 VSS2, M2 BA0, M3 BA2, M7 NC3, M8 VREFCA, M9 VSS10, N1 VDD1, N2 A3, N3 A0, N7 A12/BC~, N8 BA1, N9 VDD8, P1 VSS3, P2 A5, P3 A2, P7 A1, P8 A4, P9 VSS11, R1 VDD2, R2 A7, R3 A9, R7 A11, R8 A6, R9 VDD9, T1 VSS4, T2 ~{RESET}, T3 A13, T7 A14, T8 A8, T9 VSS12

## NT5CC256M16CP_1
designator U?
FORWARD_PCB: 1; DEVICE: NT5CC256M16CP; LEVEL: STD; OriginalSymbolOrigin: (10,580); PARTS: 1
pins: A1 VDDQ1, A2 DQ13/DQU5, A3 DQ15/DQU7, A7 DQ12/DQU4, A8 VDDQ6, A9 VSS9, B1 VSSQ1, B2 VDD3, B3 VSS6, B7 ~{UDQS}, B8 DQ14/DQU6, B9 VSSQ7, C1 VDDQ2, C2 DQ11/DQU3, C3 DQ9/DQU1, C7 UDQS, C8 DQ10/DQU2, C9 VDDQ7, D1 VSSQ2, D2 VDDQ4, D3 UDM, D7 DQ8/DQU0, D8 VSSQ5, D9 VDD7, E1 VSS1, E2 VSSQ4, E3 DQ0/DQL0, E7 LDM, E8 VSSQ6, E9 VDDQ8, F1 VDDQ3, F2 DQ2/DQL2, F3 LDQS, F7 DQ1/DQL1, F8 DQ3/DQL3, F9 VSSQ8, G1 VSSQ3, G2 DQ6/DQL6, G3 ~{LDQS}, G7 VDD5, G8 VSS7, G9 VSSQ9, H1 VREFDQ, H2 VDDQ5, H3 DQ4/DQL4, H7 DQ7/DQL7, H8 DQ5/DQL5, H9 VDDQ9, J1 NC1, J2 VSS5, J3 ~{RAS}, J7 CK, J8 VSS8, J9 NC4, K1 ODT, K2 VDD4, K3 ~{CAS}, K7 ~{CK}, K8 VDD6, K9 CKE, L1 NC2, L2 ~{CS}, L3 ~{WE}, L7 A10/AP, L8 ZQ, L9 NC5, M1 VSS2, M2 BA0, M3 BA2, M7 NC3, M8 VREFCA, M9 VSS10, N1 VDD1, N2 A3, N3 A0, N7 A12/BC~, N8 BA1, N9 VDD8, P1 VSS3, P2 A5, P3 A2, P7 A1, P8 A4, P9 VSS11, R1 VDD2, R2 A7, R3 A9, R7 A11, R8 A6, R9 VDD9, T1 VSS4, T2 ~{RESET}, T3 A13, T7 A14, T8 A8, T9 VSS12

## NT5CC256M16CP_2
designator U?
PARTS: 1; OriginalSymbolOrigin: (10,580); LEVEL: STD; DEVICE: NT5CC256M16CP; FORWARD_PCB: 1
pins: A1 VDDQ1, A2 DQ13/DQU5, A3 DQ15/DQU7, A7 DQ12/DQU4, A8 VDDQ6, A9 VSS9, B1 VSSQ1, B2 VDD3, B3 VSS6, B7 ~{UDQS}, B8 DQ14/DQU6, B9 VSSQ7, C1 VDDQ2, C2 DQ11/DQU3, C3 DQ9/DQU1, C7 UDQS, C8 DQ10/DQU2, C9 VDDQ7, D1 VSSQ2, D2 VDDQ4, D3 UDM, D7 DQ8/DQU0, D8 VSSQ5, D9 VDD7, E1 VSS1, E2 VSSQ4, E3 DQ0/DQL0, E7 LDM, E8 VSSQ6, E9 VDDQ8, F1 VDDQ3, F2 DQ2/DQL2, F3 LDQS, F7 DQ1/DQL1, F8 DQ3/DQL3, F9 VSSQ8, G1 VSSQ3, G2 DQ6/DQL6, G3 ~{LDQS}, G7 VDD5, G8 VSS7, G9 VSSQ9, H1 VREFDQ, H2 VDDQ5, H3 DQ4/DQL4, H7 DQ7/DQL7, H8 DQ5/DQL5, H9 VDDQ9, J1 NC1, J2 VSS5, J3 ~{RAS}, J7 CK, J8 VSS8, J9 NC4, K1 ODT, K2 VDD4, K3 ~{CAS}, K7 ~{CK}, K8 VDD6, K9 CKE, L1 NC2, L2 ~{CS}, L3 ~{WE}, L7 A10/AP, L8 ZQ, L9 NC5, M1 VSS2, M2 BA0, M3 BA2, M7 NC3, M8 VREFCA, M9 VSS10, N1 VDD1, N2 A3, N3 A0, N7 A12/BC~, N8 BA1, N9 VDD8, P1 VSS3, P2 A5, P3 A2, P7 A1, P8 A4, P9 VSS11, R1 VDD2, R2 A7, R3 A9, R7 A11, R8 A6, R9 VDD9, T1 VSS4, T2 ~{RESET}, T3 A13, T7 A14, T8 A8, T9 VSS12

## POE_0
designator U?
PARTS: 1; DEVICE: POE; LEVEL: STD; OriginalSymbolOrigin: (20,130)
pins: 1, 2, 3, 4, 5, 6, 7, 8, 9, 10

## PS2801-1-F3_0
designator U?
PARTS: 1; DEVICE: PS2801-1-F3; LEVEL: STD; OriginalSymbolOrigin: (20,90)
pins: 1 P, 2 N, 3 E, 4 C

## PSW4_A_0
designator S?
PARTS: 1; DEVICE: MS-156; LEVEL: STD; OriginalSymbolOrigin: (20,60); PKG_TYPE: ?; CODE: ?
pins: 1, 2, 3, 4

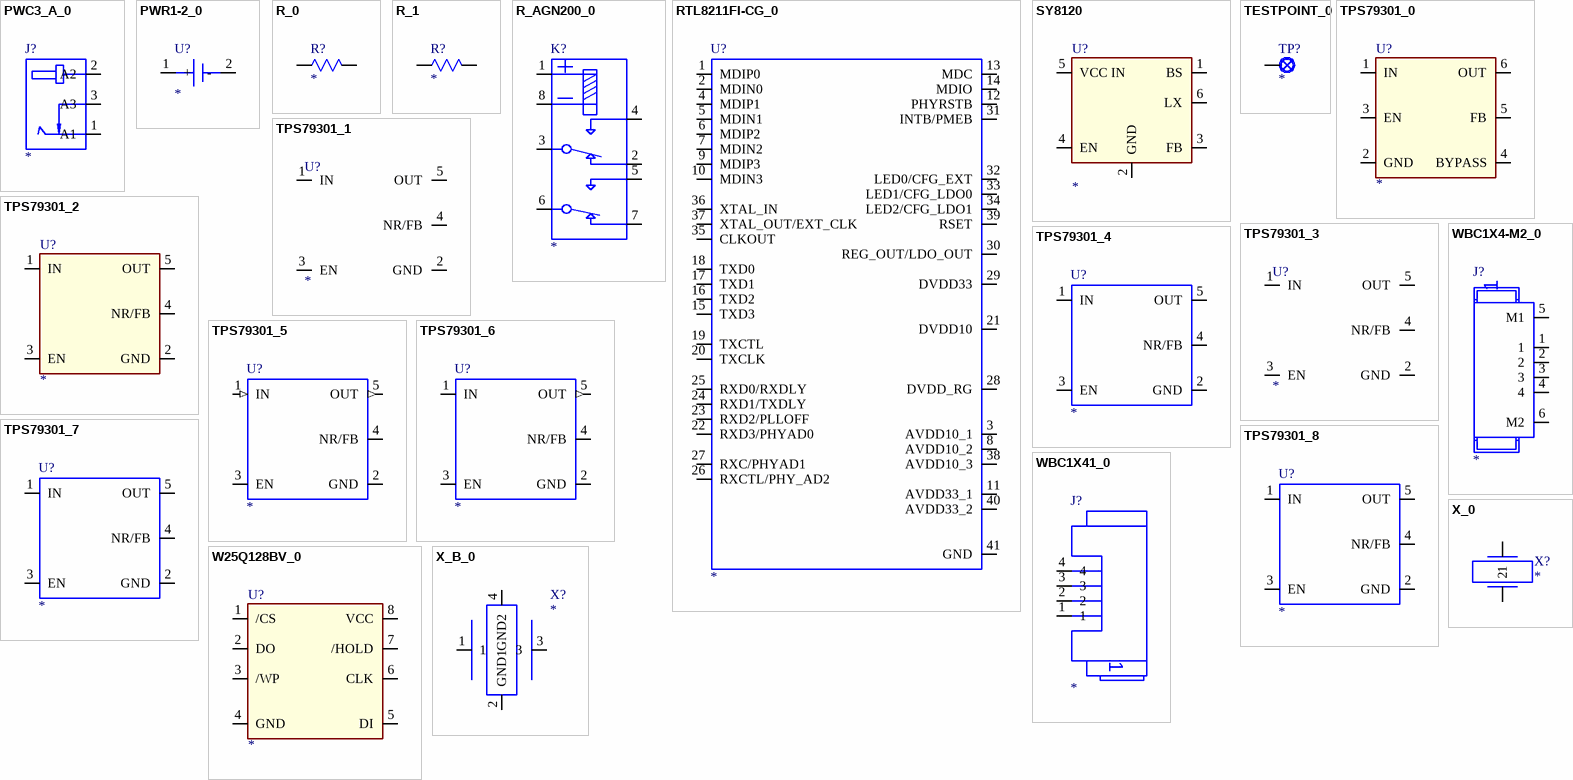
[diagram p11: symbols PWC3_A_0 to X_B_0]

## PWC3_A_0
designator J?
PARTS: 1; DEVICE: DC-005-B; LEVEL: STD; PKG_TYPE: PWC0103-M-C; CODE: 14190002; OriginalSymbolOrigin: (10,70)
pins: 1 A1, 2 A2, 3 A3

## PWR1-2_0
designator U?
PARTS: 1; DEVICE: RB414_II06E; LEVEL: STD; OriginalSymbolOrigin: (20,30); PKG_TYPE: ?; CODE: ?
pins: 1 +, 2 -

## R_0
designator R?
PARTS: 1; OriginalSymbolOrigin: (10,20); PINSWAP: (A,B); DEVICE: R; PKG_TYPE: 2; LEVEL: STD
pins: 1 A, 2 B

## R_1
designator R?
PARTS: 1; OriginalSymbolOrigin: (10,20); PINSWAP: (A,B); DEVICE: R; PKG_TYPE: 2; LEVEL: STD
pins: 1 A, 2 B

## R_AGN200_0
designator K?
DEVICE: AGN200A4HZ; LEVEL: STD; CODE: 11010071; PKG_TYPE: RELAY-200A; OriginalSymbolOrigin: (20,120)
pins: 1, 2, 3, 4, 5, 6, 7, 8

## RTL8211FI-CG_0
designator U?
PARTS: 1; DEVICE: RTL8211FI-CG; LEVEL: STD; OriginalSymbolOrigin: (20,350)
pins: 1 MDIP0, 2 MDIN0, 3 AVDD10_1, 4 MDIP1, 5 MDIN1, 6 MDIP2, 7 MDIN2, 8 AVDD10_2, 9 MDIP3, 10 MDIN3, 11 AVDD33_1, 12 PHYRSTB, 13 MDC, 14 MDIO, 15 TXD3, 16 TXD2, 17 TXD1, 18 TXD0, 19 TXCTL, 20 TXCLK, 21 DVDD10, 22 RXD3/PHYAD0, 23 RXD2/PLLOFF, 24 RXD1/TXDLY, 25 RXD0/RXDLY, 26 RXCTL/PHY_AD2, 27 RXC/PHYAD1, 28 DVDD_RG, 29 DVDD33, 30 REG_OUT/LDO_OUT, 31 INTB/PMEB, 32 LED0/CFG_EXT, 33 LED1/CFG_LDO0, 34 LED2/CFG_LDO1, 35 CLKOUT, 36 XTAL_IN, 37 XTAL_OUT/EXT_CLK, 38 AVDD10_3, 39 RSET, 40 AVDD33_2, 41 GND

## SY8120
designator U?
footprint SOT23-6
pins: 1 BS, 2 GND, 3 FB, 4 EN, 5 VCC IN, 6 LX

## TESTPOINT_0
designator TP?
PARTS: 1; OriginalSymbolOrigin: (20,20); PKG_TYPE: TP24-SMD; LEVEL: STD; DEVICE: TEST-SMD
pins: 1

## TPS79301_0
designator U?
PARTS: 1; PKG_TYPE: SOT23-6B; DEVICE: TPS79301; LEVEL: STD; CODE: 99051HWK; OriginalSymbolOrigin: (10,90)
pins: 1 IN, 2 GND, 3 EN, 4 BYPASS, 5 FB, 6 OUT

## TPS79301_1
designator U?
PARTS: 1; OriginalSymbolOrigin: (10,90); CODE: 99051HWK; LEVEL: STD; DEVICE: TPS79301; PKG_TYPE: SOT23-6B
pins: 1 IN, 2 GND, 3 EN, 4 NR/FB, 5 OUT

## TPS79301_2
designator U?
PARTS: 1; OriginalSymbolOrigin: (10,90); CODE: 99051HWK; LEVEL: STD; DEVICE: TPS79301; PKG_TYPE: SOT23-6B
pins: 1 IN, 2 GND, 3 EN, 4 NR/FB, 5 OUT

## TPS79301_3
designator U?
PARTS: 1; OriginalSymbolOrigin: (10,90); CODE: 99051HWK; LEVEL: STD; DEVICE: TPS79301; PKG_TYPE: SOT23-6B
pins: 1 IN, 2 GND, 3 EN, 4 NR/FB, 5 OUT

## TPS79301_4
designator U?
PARTS: 1; OriginalSymbolOrigin: (10,90); CODE: 99051HWK; LEVEL: STD; DEVICE: TPS79301; PKG_TYPE: SOT23-6B
pins: 1 IN, 2 GND, 3 EN, 4 NR/FB, 5 OUT

## TPS79301_5
designator U?
PARTS: 1; OriginalSymbolOrigin: (10,90); CODE: 99051HWK; LEVEL: STD; DEVICE: TPS79301; PKG_TYPE: SOT23-6B
pins: 1 IN (in), 2 GND, 3 EN, 4 NR/FB, 5 OUT (out)

## TPS79301_6
designator U?
PARTS: 1; OriginalSymbolOrigin: (10,90); CODE: 99051HWK; LEVEL: STD; DEVICE: TPS79301; PKG_TYPE: SOT23-6B
pins: 1 IN, 2 GND, 3 EN, 4 NR/FB, 5 OUT (out)

## TPS79301_7
designator U?
PARTS: 1; OriginalSymbolOrigin: (10,90); CODE: 99051HWK; LEVEL: STD; DEVICE: TPS79301; PKG_TYPE: SOT23-6B
pins: 1 IN, 2 GND, 3 EN, 4 NR/FB, 5 OUT

## TPS79301_8
designator U?
PARTS: 1; OriginalSymbolOrigin: (10,90); CODE: 99051HWK; LEVEL: STD; DEVICE: TPS79301; PKG_TYPE: SOT23-6B
pins: 1 IN, 2 GND, 3 EN, 4 NR/FB, 5 OUT

## W25Q128BV_0
designator U?
PARTS: 1; OriginalSymbolOrigin: (-5,110); LEVEL: STD; DEVICE: MX25L12835E
pins: 1 /CS, 2 DO, 3 /WP, 4 GND, 5 DI, 6 CLK, 7 /HOLD, 8 VCC

## WBC1X4-M2_0
designator J?
PARTS: 1; DEVICE: WBC1X4-M2; LEVEL: STD; PKG_TYPE: SHEAD-4P-49; CODE: 14100186; OriginalSymbolOrigin: (20,130)
pins: 1, 2, 3, 4, 5 M1, 6 M2

## WBC1X41_0
designator J?
PARTS: 1; DEVICE: WBC1X4; LEVEL: STD; PKG_TYPE: SHEAD-4P-49; CODE: 14100186; OriginalSymbolOrigin: (10,130)
pins: 1, 2, 3, 4

## X_0
designator X?
PARTS: 1; OriginalSymbolOrigin: (10,40); LEVEL: STD; PKG_TYPE: XTAL2-192; DEVICE: XIHEEC1728; CODE: 12020119
pins: 1, 2

## X_B_0
designator X?
PARTS: 1; OriginalSymbolOrigin: (20,80); LEVEL: STD; PKG_TYPE: 4; DEVICE: X_B; CODE: ?
pins: 1, 2 GND1, 3, 4 GND2